# Altium integrated library Freescale DSP 24-Bit.IntLib: 35 symbols (part 2 of 3)
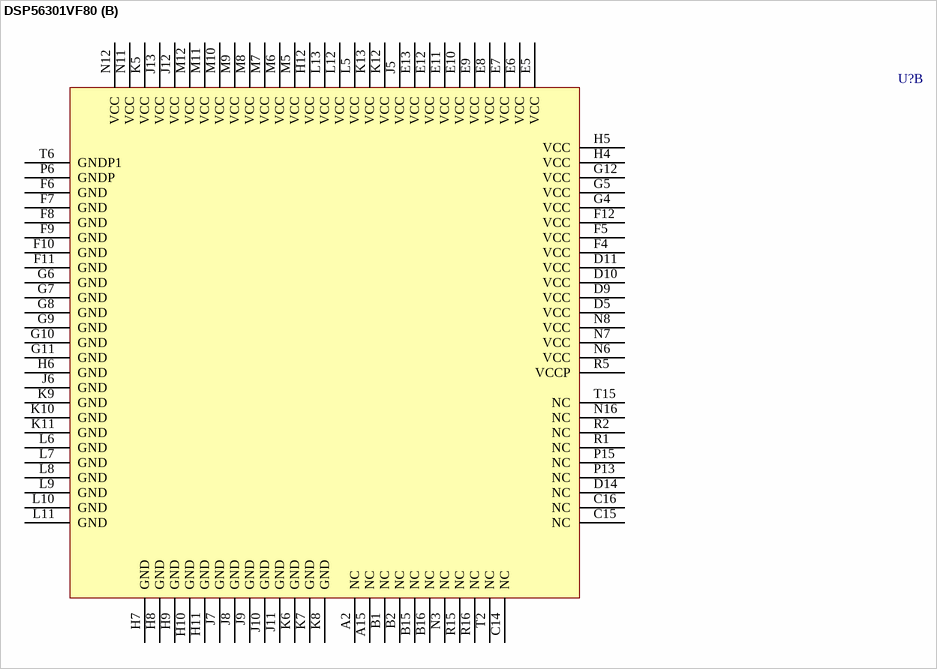
[diagram p26: symbol DSP56301VF80]

## DSP56301VF80
designator U?
DSP56300 Family High Performance 24-Bit Fixed Point DSP; Published: 21-Mar-2003; LatestRevisionDate: 13-Apr-2006; LatestRevisionNote: IPC-7351 Footprint Added.; DatasheetVersion: Rev. 5, Jan-2002; PackageVersion: Aug-2002; PackageReference: 996E-01; Publisher: Altium Limited; PackageDescription: 252-Ball MAP-Ball Grid Array 1.27 mm Pitch; ComponentLink1Description: Manufacturer Link; ComponentLink1URL: http://www.freescale.com/; ComponentLink2Description: Datasheet; ComponentLink2URL: http://www.freescale.com/files/dsp/doc/data_sheet/DSP56301DS.pdf
footprint 996E-01 (BGA, 252-Leads, Body 21x21mm, Pitch 1.27mm)
3D model DSP56301-996E-01 (252-Ball MAP-Ball Grid Array 1.27 mm Pitch)
part A pins: A3 HAD15, HD7, or PB15 (io), A4 HCLK (in), A5 HPAR or ~{HDAK} (io), A6 ~{HPERR} or HDRQ (io), A7 ~{HIRDY}, ~{HDBDR}, or PB21 (io), A8 HAD16 or HD8 (io), A9 HAD17 or HD9 (io), A10 HAD20 or HD12 (io), A11 HAD23 or HD15 (io), A12 HAD24 or HD16 (io), A13 HAD27 or HD19 (io), A14 HAD30 or HD22 (io), B3 HAD14, HD6, or PB14 (io), B4 ~{HGNT} or HAEN (in), B5 ~{HRST}/HRST (in), B6 ~{HSERR} or ~{HIRQ} (hiz), B7 ~{HDEVSEL}, ~{HSAK}, or PB22 (io), B8 HIDSEL or ~{HRD}/~{HDS} (in), B9 HC2/~{HBE2}, HA2, or PB18 (io), B10 HAD19 or HD11 (io), B11 HAD22 or HD14 (io), B12 HAD25 or HD17 (io), B13 HAD29 or HD21 (io), B14 HAD31 or HD23 (io), C1 HAD8, HD0, or PB8 (io), C2 HAD11, HD3, or PB11 (io), C3 HAD12, HD4, or PB12 (io), C4 HAD13, HD5, or PB13 (io), C5 HC1/~{HBE1}, HA1, or PB17 (io), C6 ~{HREQ} or ~{HTA} (hiz), C7 ~{HLOCK}, ~{HBS}, or PB23 (io), C8 ~{HFRAME} (io), C9 HAD18 or HD10 (io), C10 HAD21 or HD13 (io), C11 HC3/~{HBE3} or PB19 (io), C12 HAD26 or HD18 (io), C13 MODD/~{IRQD} (in), D1 HAD5, HA8, or PB5 (io), D2 HAD7, HA10, or PB7 (io), D3 HAD9, HD1, or PB9 (io), D4 HAD10, HD2, or PB10 (io), D6 PVCL, D7 ~{HSTOP} or ~{HWR}/HRW (io), D8 ~{HTRDY}, ~{HDBEN}, or PB20 (io), D12 HAD28 or HD20 (io), D13 MODC/~{IRQC} (in), D15 MODB/~{IRQB} (in), D16 D23 (io), E1 HAD2, HA5, or PB2 (io), E2 HAD4, HA7, or PB4 (io), E3 HAD6, HA9, or PB6 (io), E4 HC0/~{HBE0}, HA0, or PB16 (io), E14 MODA/~{IRQA} (in), E15 D22 (io), E16 D21 (io), F1 HAD1, HA4, or PB1 (io), F2 HAD0, HA3, or PB0 (io), F3 HAD3, HA6, or PB3 (io), F13 D18 (io), F14 D19 (io), F15 D20 (io), F16 D17 (io), G1 TIO1 (io), G2 RXD or PE0 (io), G3 TIO2 (io), G13 D12 (io), G14 D15 (io), G15 D16 (io), G16 D14 (io), H1 SCLK or PE2 (io), H2 ~{HINTA} (hiz), H3 TIO0 (io), H13 D11 (io), H14 D9 (io), H15 D13 (io), H16 D8 (io), J1 SC11 or PD1 (io), J2 SC12 or PD2 (io), J3 TXD or PE1 (io), J4 SC10 or PD0 (io), J14 D5 (io), J15 D10 (io), J16 D7 (io), K1 STD1 or PD5 (io), K2 SCK1 or PD3 (io), K3 SCK0 or PC3 (io), K4 SRD0 or PC4 (io), K14 D3 (io), K15 D6 (io), K16 D4 (io), L1 SRD1 or PD4 (io), L2 STD0 or PC5 (io), L3 SC02 or PC2 (io), L4 SC01 or PC1 (io), L14 D0 (io), L15 D2 (io), L16 D1 (io), M1 SC00 or PC0 (io), M2 ~{DE} (io), M3 TDO (hiz), M4 TMS (in), M13 A19 (hiz), M14 A21 (hiz), M15 A22 (hiz), M16 A23 (hiz), N1 TCK (in), N2 TDI (in), N4 ~{BL} (out), N5 ~{TA} (in), N9 A1 (hiz), N10 A2 (hiz), N13 A16 (hiz), N14 A17 (hiz), N15 A20 (hiz), P1 ~{TRST} (in), P2 ~{BS} (io), P3 AA0/~{RAS0} (hiz), P4 CLKOUT (out), P5 PINIT/~{NMI} (in), P7 ~{BG} (in), P8 AA3/~{RAS3} (hiz), P9 EXTAL (in), P10 A5 (hiz), P11 A8 (hiz), P12 A12 (hiz), P14 A15 (hiz), P16 A18 (hiz), R3 AA1/~{RAS1} (hiz), R4 ~{CAS} (hiz), R6 ~{BB} (io), R7 AA2/~{RAS2} (hiz), R8 XTAL, R9 ~{BCLK} (hiz), R10 A3 (hiz), R11 A6 (hiz), R12 A9 (hiz), R13 A11 (hiz), R14 A14 (hiz), T3 BCLK (hiz), T4 ~{RESET} (in), T5 PCAP, T7 ~{BR} (io), T8 ~{WR} (hiz), T9 ~{RD} (hiz), T10 A0 (hiz), T11 A4 (hiz), T12 A7 (hiz), T13 A10 (hiz), T14 A13 (hiz)
part B pins: A2 NC, A15 NC, B1 NC, B2 NC, B15 NC, B16 NC, C14 NC, C15 NC, C16 NC, D5 VCC (power), D9 VCC (power), D10 VCC (power), D11 VCC (power), D14 NC, E5 VCC (power), E6 VCC (power), E7 VCC (power), E8 VCC (power), E9 VCC (power), E10 VCC (power), E11 VCC (power), E12 VCC (power), E13 VCC (power), F4 VCC (power), F5 VCC (power), F6 GND (power), F7 GND (power), F8 GND (power), F9 GND (power), F10 GND (power), F11 GND (power), F12 VCC (power), G4 VCC (power), G5 VCC (power), G6 GND (power), G7 GND (power), G8 GND (power), G9 GND (power), G10 GND (power), G11 GND (power), G12 VCC (power), H4 VCC (power), H5 VCC (power), H6 GND (power), H7 GND (power), H8 GND (power), H9 GND (power), H10 GND (power), H11 GND (power), H12 VCC (power), J5 VCC (power), J6 GND (power), J7 GND (power), J8 GND (power), J9 GND (power), J10 GND (power), J11 GND (power), J12 VCC (power), J13 VCC (power), K5 VCC (power), K6 GND (power), K7 GND (power), K8 GND (power), K9 GND (power), K10 GND (power), K11 GND (power), K12 VCC (power), K13 VCC (power), L5 VCC (power), L6 GND (power), L7 GND (power), L8 GND (power), L9 GND (power), L10 GND (power), L11 GND (power), L12 VCC (power), L13 VCC (power), M5 VCC (power), M6 VCC (power), M7 VCC (power), M8 VCC (power), M9 VCC (power), M10 VCC (power), M11 VCC (power), M12 VCC (power), N3 NC, N6 VCC (power), N7 VCC (power), N8 VCC (power), N11 VCC (power), N12 VCC (power), N16 NC, P6 GNDP (power), P13 NC, P15 NC, R1 NC, R2 NC, R5 VCCP (power), R15 NC, R16 NC, T2 NC, T6 GNDP1 (power), T15 NC

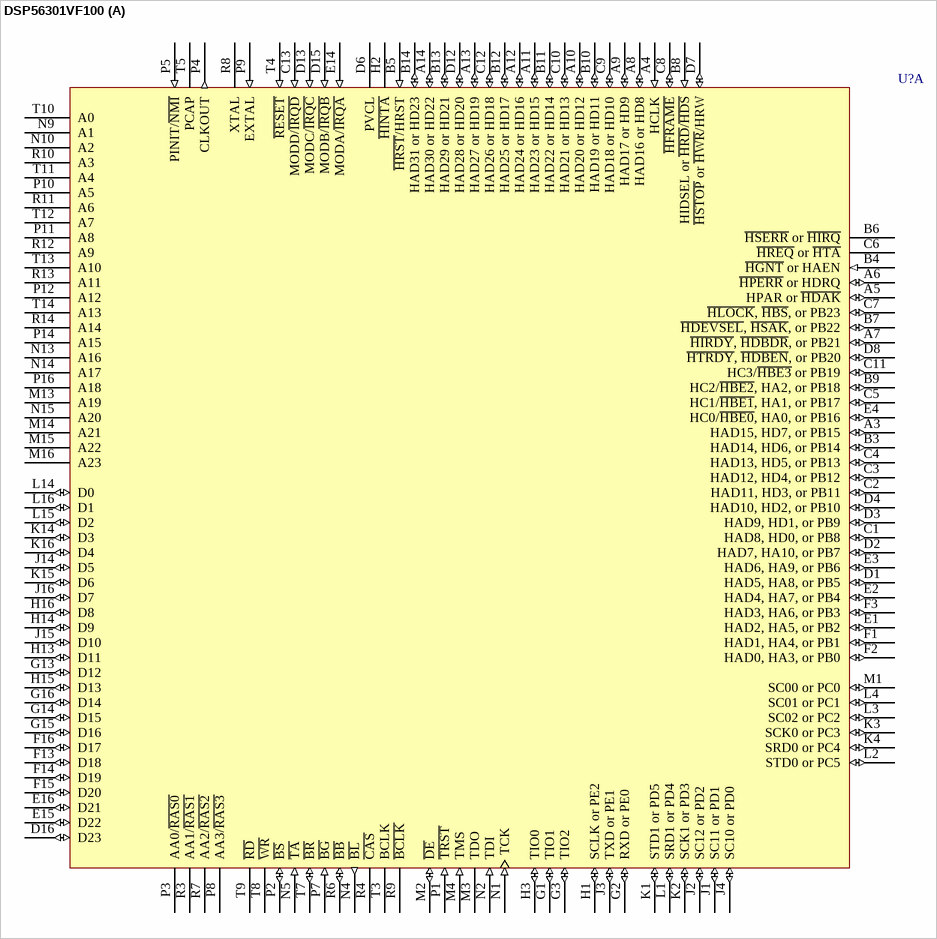
[diagram p10: symbol DSP56301VF100]

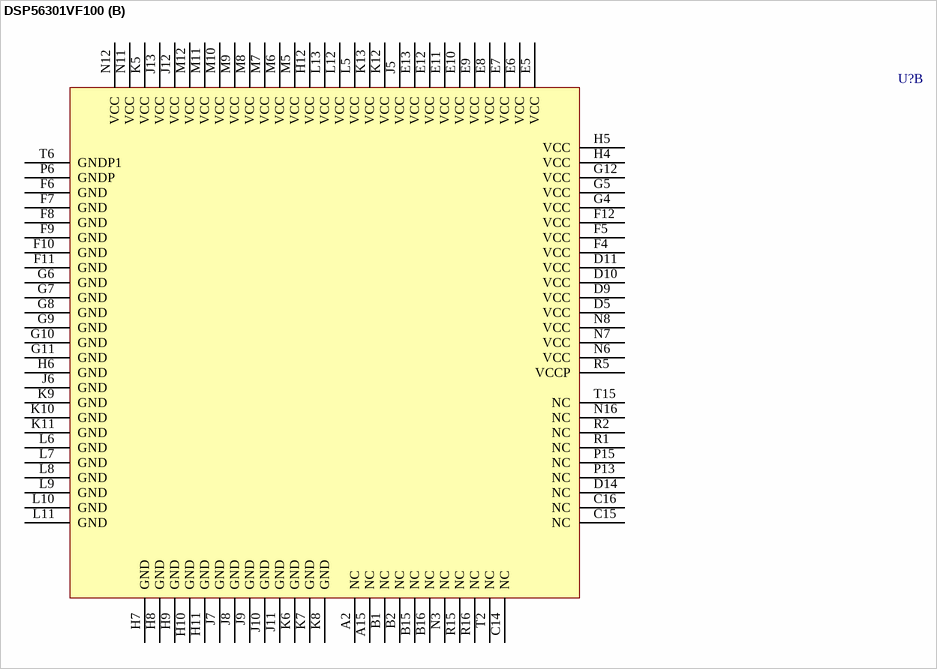
[diagram p11: symbol DSP56301VF100]

## DSP56301VF100
designator U?
DSP56300 Family High Performance 24-Bit Fixed Point DSP; Published: 21-Mar-2003; LatestRevisionDate: 13-Apr-2006; LatestRevisionNote: IPC-7351 Footprint Added.; DatasheetVersion: Rev. 5, Jan-2002; PackageVersion: Aug-2002; PackageReference: 996E-01; Publisher: Altium Limited; PackageDescription: 252-Ball MAP-Ball Grid Array 1.27 mm Pitch; ComponentLink1Description: Manufacturer Link; ComponentLink1URL: http://www.freescale.com/; ComponentLink2Description: Datasheet; ComponentLink2URL: http://www.freescale.com/files/dsp/doc/data_sheet/DSP56301DS.pdf
footprint 996E-01 (BGA, 252-Leads, Body 21x21mm, Pitch 1.27mm)
3D model DSP56301-996E-01 (252-Ball MAP-Ball Grid Array 1.27 mm Pitch)
part A pins: A3 HAD15, HD7, or PB15 (io), A4 HCLK (in), A5 HPAR or ~{HDAK} (io), A6 ~{HPERR} or HDRQ (io), A7 ~{HIRDY}, ~{HDBDR}, or PB21 (io), A8 HAD16 or HD8 (io), A9 HAD17 or HD9 (io), A10 HAD20 or HD12 (io), A11 HAD23 or HD15 (io), A12 HAD24 or HD16 (io), A13 HAD27 or HD19 (io), A14 HAD30 or HD22 (io), B3 HAD14, HD6, or PB14 (io), B4 ~{HGNT} or HAEN (in), B5 ~{HRST}/HRST (in), B6 ~{HSERR} or ~{HIRQ} (hiz), B7 ~{HDEVSEL}, ~{HSAK}, or PB22 (io), B8 HIDSEL or ~{HRD}/~{HDS} (in), B9 HC2/~{HBE2}, HA2, or PB18 (io), B10 HAD19 or HD11 (io), B11 HAD22 or HD14 (io), B12 HAD25 or HD17 (io), B13 HAD29 or HD21 (io), B14 HAD31 or HD23 (io), C1 HAD8, HD0, or PB8 (io), C2 HAD11, HD3, or PB11 (io), C3 HAD12, HD4, or PB12 (io), C4 HAD13, HD5, or PB13 (io), C5 HC1/~{HBE1}, HA1, or PB17 (io), C6 ~{HREQ} or ~{HTA} (hiz), C7 ~{HLOCK}, ~{HBS}, or PB23 (io), C8 ~{HFRAME} (io), C9 HAD18 or HD10 (io), C10 HAD21 or HD13 (io), C11 HC3/~{HBE3} or PB19 (io), C12 HAD26 or HD18 (io), C13 MODD/~{IRQD} (in), D1 HAD5, HA8, or PB5 (io), D2 HAD7, HA10, or PB7 (io), D3 HAD9, HD1, or PB9 (io), D4 HAD10, HD2, or PB10 (io), D6 PVCL, D7 ~{HSTOP} or ~{HWR}/HRW (io), D8 ~{HTRDY}, ~{HDBEN}, or PB20 (io), D12 HAD28 or HD20 (io), D13 MODC/~{IRQC} (in), D15 MODB/~{IRQB} (in), D16 D23 (io), E1 HAD2, HA5, or PB2 (io), E2 HAD4, HA7, or PB4 (io), E3 HAD6, HA9, or PB6 (io), E4 HC0/~{HBE0}, HA0, or PB16 (io), E14 MODA/~{IRQA} (in), E15 D22 (io), E16 D21 (io), F1 HAD1, HA4, or PB1 (io), F2 HAD0, HA3, or PB0 (io), F3 HAD3, HA6, or PB3 (io), F13 D18 (io), F14 D19 (io), F15 D20 (io), F16 D17 (io), G1 TIO1 (io), G2 RXD or PE0 (io), G3 TIO2 (io), G13 D12 (io), G14 D15 (io), G15 D16 (io), G16 D14 (io), H1 SCLK or PE2 (io), H2 ~{HINTA} (hiz), H3 TIO0 (io), H13 D11 (io), H14 D9 (io), H15 D13 (io), H16 D8 (io), J1 SC11 or PD1 (io), J2 SC12 or PD2 (io), J3 TXD or PE1 (io), J4 SC10 or PD0 (io), J14 D5 (io), J15 D10 (io), J16 D7 (io), K1 STD1 or PD5 (io), K2 SCK1 or PD3 (io), K3 SCK0 or PC3 (io), K4 SRD0 or PC4 (io), K14 D3 (io), K15 D6 (io), K16 D4 (io), L1 SRD1 or PD4 (io), L2 STD0 or PC5 (io), L3 SC02 or PC2 (io), L4 SC01 or PC1 (io), L14 D0 (io), L15 D2 (io), L16 D1 (io), M1 SC00 or PC0 (io), M2 ~{DE} (io), M3 TDO (hiz), M4 TMS (in), M13 A19 (hiz), M14 A21 (hiz), M15 A22 (hiz), M16 A23 (hiz), N1 TCK (in), N2 TDI (in), N4 ~{BL} (out), N5 ~{TA} (in), N9 A1 (hiz), N10 A2 (hiz), N13 A16 (hiz), N14 A17 (hiz), N15 A20 (hiz), P1 ~{TRST} (in), P2 ~{BS} (io), P3 AA0/~{RAS0} (hiz), P4 CLKOUT (out), P5 PINIT/~{NMI} (in), P7 ~{BG} (in), P8 AA3/~{RAS3} (hiz), P9 EXTAL (in), P10 A5 (hiz), P11 A8 (hiz), P12 A12 (hiz), P14 A15 (hiz), P16 A18 (hiz), R3 AA1/~{RAS1} (hiz), R4 ~{CAS} (hiz), R6 ~{BB} (io), R7 AA2/~{RAS2} (hiz), R8 XTAL, R9 ~{BCLK} (hiz), R10 A3 (hiz), R11 A6 (hiz), R12 A9 (hiz), R13 A11 (hiz), R14 A14 (hiz), T3 BCLK (hiz), T4 ~{RESET} (in), T5 PCAP, T7 ~{BR} (io), T8 ~{WR} (hiz), T9 ~{RD} (hiz), T10 A0 (hiz), T11 A4 (hiz), T12 A7 (hiz), T13 A10 (hiz), T14 A13 (hiz)
part B pins: A2 NC, A15 NC, B1 NC, B2 NC, B15 NC, B16 NC, C14 NC, C15 NC, C16 NC, D5 VCC (power), D9 VCC (power), D10 VCC (power), D11 VCC (power), D14 NC, E5 VCC (power), E6 VCC (power), E7 VCC (power), E8 VCC (power), E9 VCC (power), E10 VCC (power), E11 VCC (power), E12 VCC (power), E13 VCC (power), F4 VCC (power), F5 VCC (power), F6 GND (power), F7 GND (power), F8 GND (power), F9 GND (power), F10 GND (power), F11 GND (power), F12 VCC (power), G4 VCC (power), G5 VCC (power), G6 GND (power), G7 GND (power), G8 GND (power), G9 GND (power), G10 GND (power), G11 GND (power), G12 VCC (power), H4 VCC (power), H5 VCC (power), H6 GND (power), H7 GND (power), H8 GND (power), H9 GND (power), H10 GND (power), H11 GND (power), H12 VCC (power), J5 VCC (power), J6 GND (power), J7 GND (power), J8 GND (power), J9 GND (power), J10 GND (power), J11 GND (power), J12 VCC (power), J13 VCC (power), K5 VCC (power), K6 GND (power), K7 GND (power), K8 GND (power), K9 GND (power), K10 GND (power), K11 GND (power), K12 VCC (power), K13 VCC (power), L5 VCC (power), L6 GND (power), L7 GND (power), L8 GND (power), L9 GND (power), L10 GND (power), L11 GND (power), L12 VCC (power), L13 VCC (power), M5 VCC (power), M6 VCC (power), M7 VCC (power), M8 VCC (power), M9 VCC (power), M10 VCC (power), M11 VCC (power), M12 VCC (power), N3 NC, N6 VCC (power), N7 VCC (power), N8 VCC (power), N11 VCC (power), N12 VCC (power), N16 NC, P6 GNDP (power), P13 NC, P15 NC, R1 NC, R2 NC, R5 VCCP (power), R15 NC, R16 NC, T2 NC, T6 GNDP1 (power), T15 NC

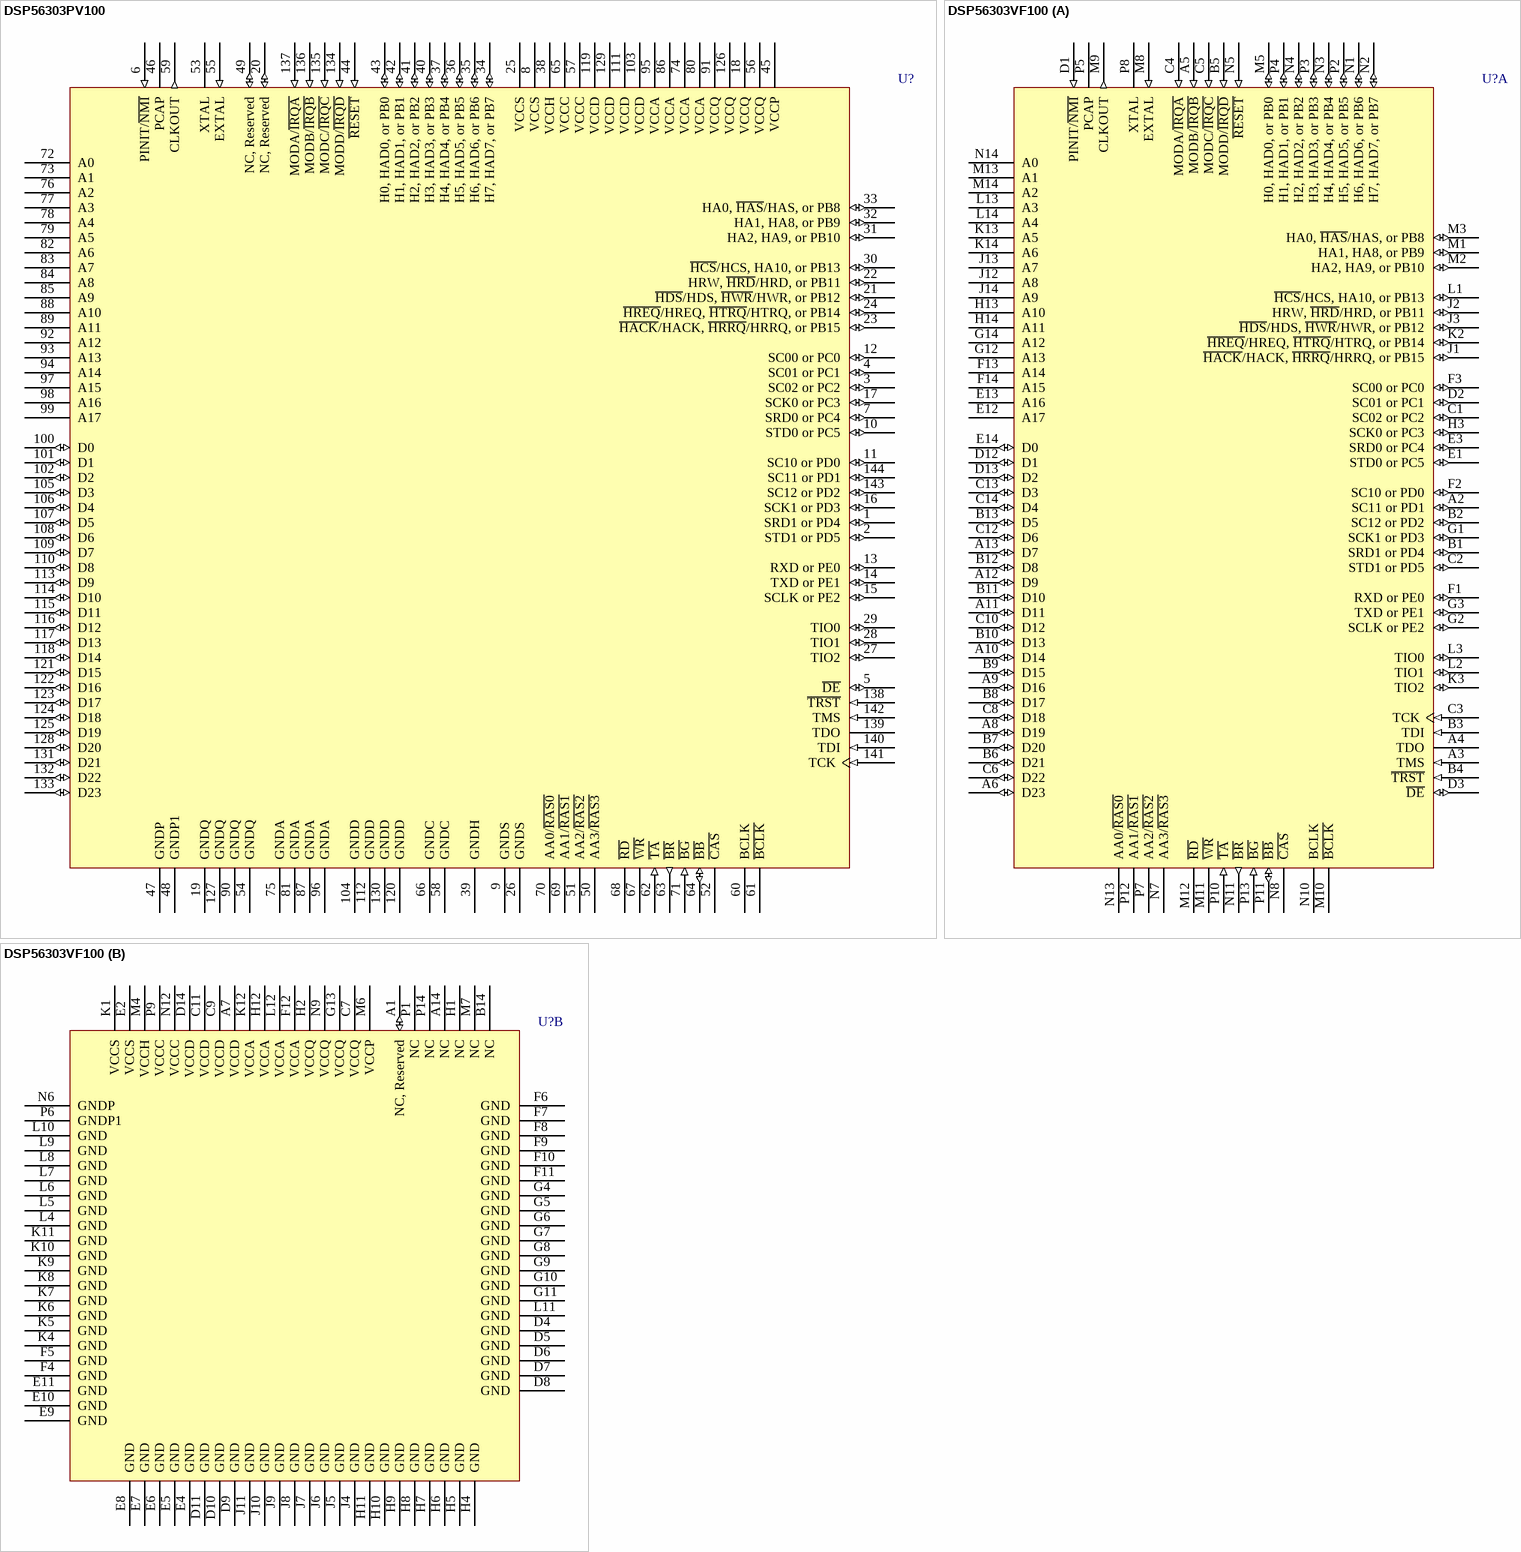
[diagram p12: symbols DSP56303PV100 to DSP56303VF100]

## DSP56303PV100
designator U?
DSP56300 Family High Performance 24-Bit Fixed Point DSP; Published: 21-Mar-2003; LatestRevisionDate: 13-Apr-2006; LatestRevisionNote: IPC-7351 Footprint Added.; DatasheetVersion: Rev. 7.0, Jan-2002; PackageVersion: revF, May-2005; PackageReference: 918-03; Publisher: Altium Limited; PackageDescription: 144-Pin Low Profile Quad Flat Pack 0.5 mm Pitch (918-03); ComponentLink1Description: Manufacturer Link; ComponentLink1URL: http://www.freescale.com/; ComponentLink2Description: Datasheet; ComponentLink2URL: http://www.freescale.com/files/dsp/doc/data_sheet/DSP56303.pdf
footprint 918-03_N (Thin QFP, 144-Leads, Body 20x20mm, Pitch 0.5mm, IPC Medium Density)
footprint 918-03_L (Thin QFP, 144-Leads, Body 20x20mm, Pitch 0.5mm, IPC High Density)
footprint 918-03_M (Thin QFP, 144-Leads, Body 20x20mm, Pitch 0.5mm, IPC Low Density)
3D model DSP56303-918-03 (144-Pin Low Profile Quad Flat Pack 0.5 mm Pitch (918-03))
pins: 1 SRD1 or PD4 (io), 2 STD1 or PD5 (io), 3 SC02 or PC2 (io), 4 SC01 or PC1 (io), 5 ~{DE} (io), 6 PINIT/~{NMI} (in), 7 SRD0 or PC4 (io), 8 VCCS (power), 9 GNDS (power), 10 STD0 or PC5 (io), 11 SC10 or PD0 (io), 12 SC00 or PC0 (io), 13 RXD or PE0 (io), 14 TXD or PE1 (io), 15 SCLK or PE2 (io), 16 SCK1 or PD3 (io), 17 SCK0 or PC3 (io), 18 VCCQ (power), 19 GNDQ (power), 20 NC, Reserved (io), 21 ~{HDS}/HDS, ~{HWR}/HWR, or PB12 (io), 22 HRW, ~{HRD}/HRD, or PB11 (io), 23 ~{HACK}/HACK, ~{HRRQ}/HRRQ, or PB15 (io), 24 ~{HREQ}/HREQ, ~{HTRQ}/HTRQ, or PB14 (io), 25 VCCS (power), 26 GNDS (power), 27 TIO2 (io), 28 TIO1 (io), 29 TIO0 (io), 30 ~{HCS}/HCS, HA10, or PB13 (io), 31 HA2, HA9, or PB10 (io), 32 HA1, HA8, or PB9 (io), 33 HA0, ~{HAS}/HAS, or PB8 (io), 34 H7, HAD7, or PB7 (io), 35 H6, HAD6, or PB6 (io), 36 H5, HAD5, or PB5 (io), 37 H4, HAD4, or PB4 (io), 38 VCCH (power), 39 GNDH (power), 40 H3, HAD3, or PB3 (io), 41 H2, HAD2, or PB2 (io), 42 H1, HAD1, or PB1 (io), 43 H0, HAD0, or PB0 (io), 44 ~{RESET} (in), 45 VCCP (power), 46 PCAP, 47 GNDP (power), 48 GNDP1 (power), 49 NC, Reserved (io), 50 AA3/~{RAS3} (hiz), 51 AA2/~{RAS2} (hiz), 52 ~{CAS} (hiz), 53 XTAL, 54 GNDQ (power), 55 EXTAL (in), 56 VCCQ (power), 57 VCCC (power), 58 GNDC (power), 59 CLKOUT (out), 60 BCLK (hiz), 61 ~{BCLK} (hiz), 62 ~{TA} (in), 63 ~{BR} (out), 64 ~{BB} (io), 65 VCCC (power), 66 GNDC (power), 67 ~{WR} (hiz), 68 ~{RD} (hiz), 69 AA1/~{RAS1} (hiz), 70 AA0/~{RAS0} (hiz), 71 ~{BG} (in), 72 A0 (hiz), 73 A1 (hiz), 74 VCCA (power), 75 GNDA (power), 76 A2 (hiz), 77 A3 (hiz), 78 A4 (hiz), 79 A5 (hiz), 80 VCCA (power), 81 GNDA (power), 82 A6 (hiz), 83 A7 (hiz), 84 A8 (hiz), 85 A9 (hiz), 86 VCCA (power), 87 GNDA (power), 88 A10 (hiz), 89 A11 (hiz), 90 GNDQ (power), 91 VCCQ (power), 92 A12 (hiz), 93 A13 (hiz), 94 A14 (hiz), 95 VCCA (power), 96 GNDA (power), 97 A15 (hiz), 98 A16 (hiz), 99 A17 (hiz), 100 D0 (io), 101 D1 (io), 102 D2 (io), 103 VCCD (power), 104 GNDD (power), 105 D3 (io), 106 D4 (io), 107 D5 (io), 108 D6 (io), 109 D7 (io), 110 D8 (io), 111 VCCD (power), 112 GNDD (power), 113 D9 (io), 114 D10 (io), 115 D11 (io), 116 D12 (io), 117 D13 (io), 118 D14 (io), 119 VCCD (power), 120 GNDD (power), 121 D15 (io), 122 D16 (io), 123 D17 (io), 124 D18 (io), 125 D19 (io), 126 VCCQ (power), 127 GNDQ (power), 128 D20 (io), 129 VCCD (power), 130 GNDD (power), 131 D21 (io), 132 D22 (io), 133 D23 (io), 134 MODD/~{IRQD} (in), 135 MODC/~{IRQC} (in), 136 MODB/~{IRQB} (in), 137 MODA/~{IRQA} (in), 138 ~{TRST} (in), 139 TDO (hiz), 140 TDI (in), 141 TCK (in), 142 TMS (in), 143 SC12 or PD2 (io), 144 SC11 or PD1 (io)

## DSP56303VF100
designator U?
DSP56300 Family High Performance 24-Bit Fixed Point DSP; Published: 21-Mar-2003; LatestRevisionDate: 13-Apr-2006; LatestRevisionNote: IPC-7351 Footprint Added.; DatasheetVersion: Rev. 7.0, Jan-2002; PackageVersion: rev7, Jan-2002; PackageReference: 1128C-01; Publisher: Altium Limited; PackageDescription: 196-Ball MAP-Ball Grid Array 1 mm Pitch; ComponentLink1Description: Manufacturer Link; ComponentLink1URL: http://www.freescale.com/; ComponentLink2Description: Datasheet; ComponentLink2URL: http://www.freescale.com/files/dsp/doc/data_sheet/DSP56303.pdf
footprint 1128C-01 (BGA, 196-Leads, Body 15x15mm, Pitch 1mm)
3D model DSP56303-1128C-01 (196-Ball MAP-Ball Grid Array 1 mm Pitch)
part A pins: A2 SC11 or PD1 (io), A3 TMS (in), A4 TDO (hiz), A5 MODB/~{IRQB} (in), A6 D23 (io), A8 D19 (io), A9 D16 (io), A10 D14 (io), A11 D11 (io), A12 D9 (io), A13 D7 (io), B1 SRD1 or PD4 (io), B2 SC12 or PD2 (io), B3 TDI (in), B4 ~{TRST} (in), B5 MODD/~{IRQD} (in), B6 D21 (io), B7 D20 (io), B8 D17 (io), B9 D15 (io), B10 D13 (io), B11 D10 (io), B12 D8 (io), B13 D5 (io), C1 SC02 or PC2 (io), C2 STD1 or PD5 (io), C3 TCK (in), C4 MODA/~{IRQA} (in), C5 MODC/~{IRQC} (in), C6 D22 (io), C8 D18 (io), C10 D12 (io), C12 D6 (io), C13 D3 (io), C14 D4 (io), D1 PINIT/~{NMI} (in), D2 SC01 or PC1 (io), D3 ~{DE} (io), D12 D1 (io), D13 D2 (io), E1 STD0 or PC5 (io), E3 SRD0 or PC4 (io), E12 A17 (hiz), E13 A16 (hiz), E14 D0 (io), F1 RXD or PE0 (io), F2 SC10 or PD0 (io), F3 SC00 or PC0 (io), F13 A14 (hiz), F14 A15 (hiz), G1 SCK1 or PD3 (io), G2 SCLK or PE2 (io), G3 TXD or PE1 (io), G12 A13 (hiz), G14 A12 (hiz), H3 SCK0 or PC3 (io), H13 A10 (hiz), H14 A11 (hiz), J1 ~{HACK}/HACK, ~{HRRQ}/HRRQ, or PB15 (io), J2 HRW, ~{HRD}/HRD, or PB11 (io), J3 ~{HDS}/HDS, ~{HWR}/HWR, or PB12 (io), J12 A8 (hiz), J13 A7 (hiz), J14 A9 (hiz), K2 ~{HREQ}/HREQ, ~{HTRQ}/HTRQ, or PB14 (io), K3 TIO2 (io), K13 A5 (hiz), K14 A6 (hiz), L1 ~{HCS}/HCS, HA10, or PB13 (io), L2 TIO1 (io), L3 TIO0 (io), L13 A3 (hiz), L14 A4 (hiz), M1 HA1, HA8, or PB9 (io), M2 HA2, HA9, or PB10 (io), M3 HA0, ~{HAS}/HAS, or PB8 (io), M5 H0, HAD0, or PB0 (io), M8 EXTAL (in), M9 CLKOUT (out), M10 ~{BCLK} (hiz), M11 ~{WR} (hiz), M12 ~{RD} (hiz), M13 A1 (hiz), M14 A2 (hiz), N1 H6, HAD6, or PB6 (io), N2 H7, HAD7, or PB7 (io), N3 H4, HAD4, or PB4 (io), N4 H2, HAD2, or PB2 (io), N5 ~{RESET} (in), N7 AA3/~{RAS3} (hiz), N8 ~{CAS} (hiz), N10 BCLK (hiz), N11 ~{BR} (out), N13 AA0/~{RAS0} (hiz), N14 A0 (hiz), P2 H5, HAD5, or PB5 (io), P3 H3, HAD3, or PB3 (io), P4 H1, HAD1, or PB1 (io), P5 PCAP, P7 AA2/~{RAS2} (hiz), P8 XTAL, P10 ~{TA} (in), P11 ~{BB} (io), P12 AA1/~{RAS1} (hiz), P13 ~{BG} (in)
part B pins: A1 NC, Reserved (io), A7 VCCD (power), A14 NC, B14 NC, C7 VCCQ (power), C9 VCCD (power), C11 VCCD (power), D4 GND (power), D5 GND (power), D6 GND (power), D7 GND (power), D8 GND (power), D9 GND (power), D10 GND (power), D11 GND (power), D14 VCCD (power), E2 VCCS (power), E4 GND (power), E5 GND (power), E6 GND (power), E7 GND (power), E8 GND (power), E9 GND (power), E10 GND (power), E11 GND (power), F4 GND (power), F5 GND (power), F6 GND (power), F7 GND (power), F8 GND (power), F9 GND (power), F10 GND (power), F11 GND (power), F12 VCCA (power), G4 GND (power), G5 GND (power), G6 GND (power), G7 GND (power), G8 GND (power), G9 GND (power), G10 GND (power), G11 GND (power), G13 VCCQ (power), H1 NC, H2 VCCQ (power), H4 GND (power), H5 GND (power), H6 GND (power), H7 GND (power), H8 GND (power), H9 GND (power), H10 GND (power), H11 GND (power), H12 VCCA (power), J4 GND (power), J5 GND (power), J6 GND (power), J7 GND (power), J8 GND (power), J9 GND (power), J10 GND (power), J11 GND (power), K1 VCCS (power), K4 GND (power), K5 GND (power), K6 GND (power), K7 GND (power), K8 GND (power), K9 GND (power), K10 GND (power), K11 GND (power), K12 VCCA (power), L4 GND (power), L5 GND (power), L6 GND (power), L7 GND (power), L8 GND (power), L9 GND (power), L10 GND (power), L11 GND (power), L12 VCCA (power), M4 VCCH (power), M6 VCCP (power), M7 NC, N6 GNDP (power), N9 VCCQ (power), N12 VCCC (power), P1 NC, P6 GNDP1 (power), P9 VCCC (power), P14 NC

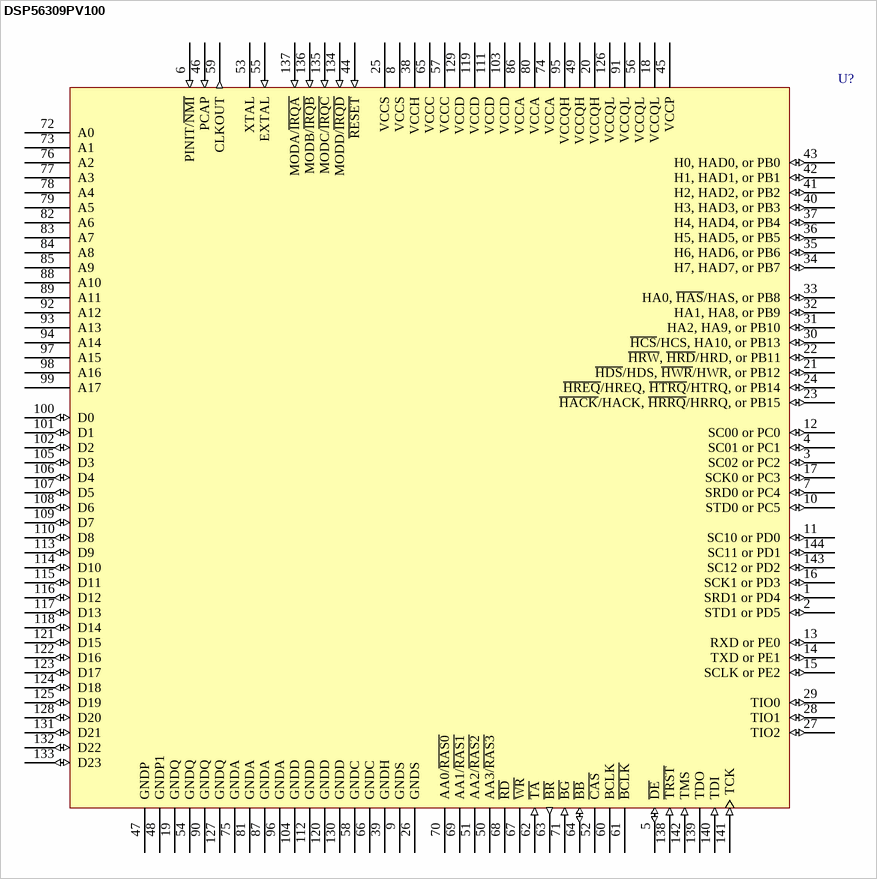
[diagram p13: symbol DSP56309PV100]

## DSP56309PV100
designator U?
DSP56300 Family High Performance 24-Bit Fixed Point DSP; Published: 21-Mar-2003; LatestRevisionDate: 13-Apr-2006; LatestRevisionNote: IPC-7351 Footprint Added.; DatasheetVersion: Rev. 3.0, Sep-2002; PackageVersion: revF, May-2005; PackageReference: 918-03; Publisher: Altium Limited; PackageDescription: 144-Pin Low Profile Quad Flat Pack 0.5 mm Pitch (918-03); ComponentLink1Description: Manufacturer Link; ComponentLink1URL: http://www.freescale.com/; ComponentLink2Description: Datasheet; ComponentLink2URL: http://www.freescale.com/files/dsp/doc/data_sheet/DSP56309.pdf
footprint 918-03_N (Thin QFP, 144-Leads, Body 20x20mm, Pitch 0.5mm, IPC Medium Density)
footprint 918-03_L (Thin QFP, 144-Leads, Body 20x20mm, Pitch 0.5mm, IPC High Density)
footprint 918-03_M (Thin QFP, 144-Leads, Body 20x20mm, Pitch 0.5mm, IPC Low Density)
3D model DSP56309-918-03 (144-Pin Low Profile Quad Flat Pack 0.5 mm Pitch (918-03))
pins: 1 SRD1 or PD4 (io), 2 STD1 or PD5 (io), 3 SC02 or PC2 (io), 4 SC01 or PC1 (io), 5 ~{DE} (io), 6 PINIT/~{NMI} (in), 7 SRD0 or PC4 (io), 8 VCCS (power), 9 GNDS (power), 10 STD0 or PC5 (io), 11 SC10 or PD0 (io), 12 SC00 or PC0 (io), 13 RXD or PE0 (io), 14 TXD or PE1 (io), 15 SCLK or PE2 (io), 16 SCK1 or PD3 (io), 17 SCK0 or PC3 (io), 18 VCCQL (power), 19 GNDQ (power), 20 VCCQH (power), 21 ~{HDS}/HDS, ~{HWR}/HWR, or PB12 (io), 22 ~{HRW}, ~{HRD}/HRD, or PB11 (io), 23 ~{HACK}/HACK, ~{HRRQ}/HRRQ, or PB15 (io), 24 ~{HREQ}/HREQ, ~{HTRQ}/HTRQ, or PB14 (io), 25 VCCS (power), 26 GNDS (power), 27 TIO2 (io), 28 TIO1 (io), 29 TIO0 (io), 30 ~{HCS}/HCS, HA10, or PB13 (io), 31 HA2, HA9, or PB10 (io), 32 HA1, HA8, or PB9 (io), 33 HA0, ~{HAS}/HAS, or PB8 (io), 34 H7, HAD7, or PB7 (io), 35 H6, HAD6, or PB6 (io), 36 H5, HAD5, or PB5 (io), 37 H4, HAD4, or PB4 (io), 38 VCCH (power), 39 GNDH (power), 40 H3, HAD3, or PB3 (io), 41 H2, HAD2, or PB2 (io), 42 H1, HAD1, or PB1 (io), 43 H0, HAD0, or PB0 (io), 44 ~{RESET} (in), 45 VCCP (power), 46 PCAP (in), 47 GNDP (power), 48 GNDP1 (power), 49 VCCQH (power), 50 AA3/~{RAS3} (hiz), 51 AA2/~{RAS2} (hiz), 52 ~{CAS} (hiz), 53 XTAL, 54 GNDQ (power), 55 EXTAL (in), 56 VCCQL (power), 57 VCCC (power), 58 GNDC (power), 59 CLKOUT (out), 60 BCLK (hiz), 61 ~{BCLK} (hiz), 62 ~{TA} (in), 63 ~{BR} (out), 64 ~{BB} (io), 65 VCCC (power), 66 GNDC (power), 67 ~{WR} (hiz), 68 ~{RD} (hiz), 69 AA1/~{RAS1} (hiz), 70 AA0/~{RAS0} (hiz), 71 ~{BG} (in), 72 A0 (hiz), 73 A1 (hiz), 74 VCCA (power), 75 GNDA (power), 76 A2 (hiz), 77 A3 (hiz), 78 A4 (hiz), 79 A5 (hiz), 80 VCCA (power), 81 GNDA (power), 82 A6 (hiz), 83 A7 (hiz), 84 A8 (hiz), 85 A9 (hiz), 86 VCCA (power), 87 GNDA (power), 88 A10 (hiz), 89 A11 (hiz), 90 GNDQ (power), 91 VCCQL (power), 92 A12 (hiz), 93 A13 (hiz), 94 A14 (hiz), 95 VCCQH (power), 96 GNDA (power), 97 A15 (hiz), 98 A16 (hiz), 99 A17 (hiz), 100 D0 (io), 101 D1 (io), 102 D2 (io), 103 VCCD (power), 104 GNDD (power), 105 D3 (io), 106 D4 (io), 107 D5 (io), 108 D6 (io), 109 D7 (io), 110 D8 (io), 111 VCCD (power), 112 GNDD (power), 113 D9 (io), 114 D10 (io), 115 D11 (io), 116 D12 (io), 117 D13 (io), 118 D14 (io), 119 VCCD (power), 120 GNDD (power), 121 D15 (io), 122 D16 (io), 123 D17 (io), 124 D18 (io), 125 D19 (io), 126 VCCQL (power), 127 GNDQ (power), 128 D20 (io), 129 VCCD (power), 130 GNDD (power), 131 D21 (io), 132 D22 (io), 133 D23 (io), 134 MODD/~{IRQD} (in), 135 MODC/~{IRQC} (in), 136 MODB/~{IRQB} (in), 137 MODA/~{IRQA} (in), 138 ~{TRST} (in), 139 TDO (hiz), 140 TDI (in), 141 TCK (in), 142 TMS (in), 143 SC12 or PD2 (io), 144 SC11 or PD1 (io)

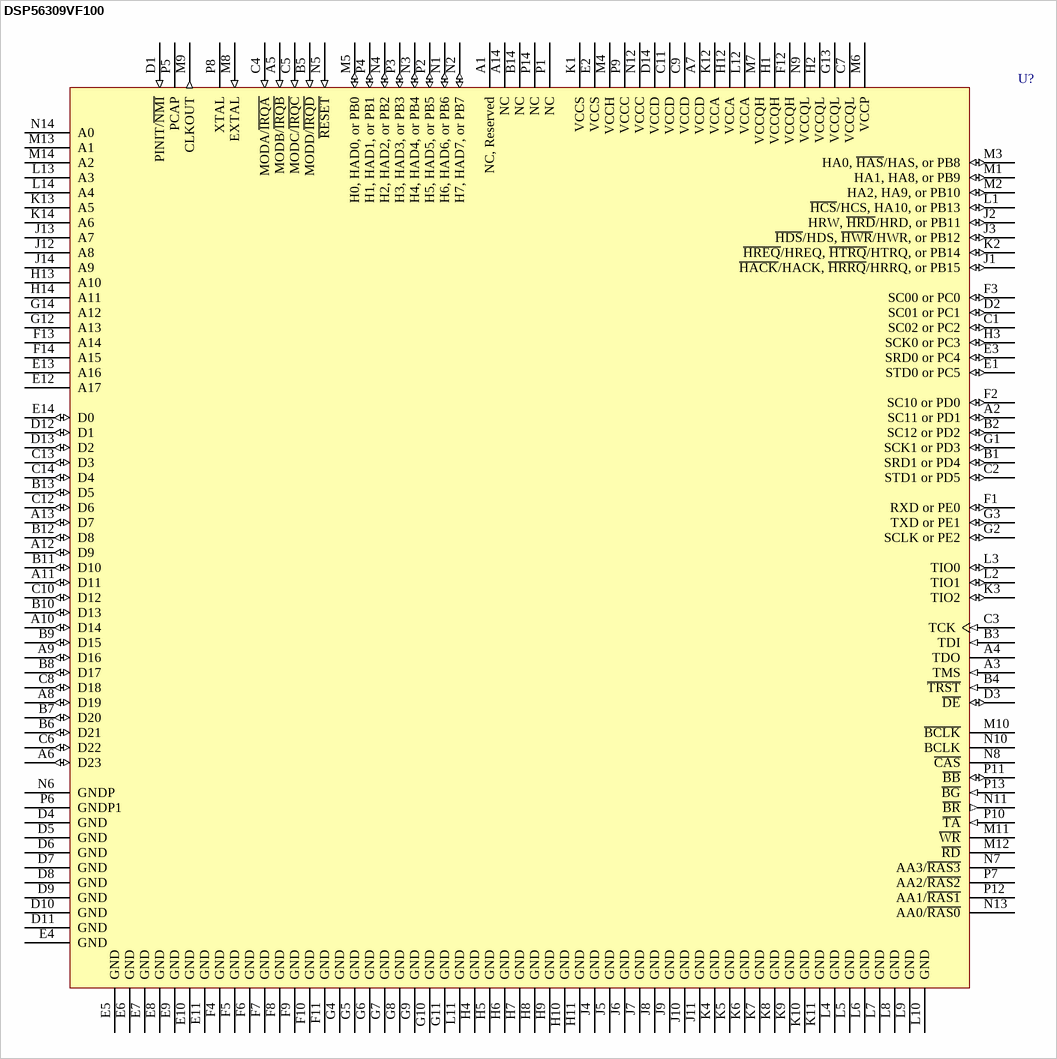
[diagram p14: symbol DSP56309VF100]

## DSP56309VF100
designator U?
DSP56300 Family High Performance 24-Bit Fixed Point DSP; Published: 21-Mar-2003; LatestRevisionDate: 13-Apr-2006; LatestRevisionNote: IPC-7351 Footprint Added.; DatasheetVersion: Rev. 3.0, Sep-2002; PackageVersion: rev7, Jan-2002; PackageReference: 1128C-01; Publisher: Altium Limited; PackageDescription: 196-Ball MAP-Ball Grid Array 1 mm Pitch; ComponentLink1Description: Manufacturer Link; ComponentLink1URL: http://www.freescale.com/; ComponentLink2Description: Datasheet; ComponentLink2URL: http://www.freescale.com/files/dsp/doc/data_sheet/DSP56309.pdf
footprint 1128C-01 (BGA, 196-Leads, Body 15x15mm, Pitch 1mm)
3D model DSP56309-1128C-01 (196-Ball MAP-Ball Grid Array 1 mm Pitch)
pins: A1 NC, Reserved, A2 SC11 or PD1 (io), A3 TMS (in), A4 TDO (hiz), A5 MODB/~{IRQB} (in), A6 D23 (io), A7 VCCD (power), A8 D19 (io), A9 D16 (io), A10 D14 (io), A11 D11 (io), A12 D9 (io), A13 D7 (io), A14 NC, B1 SRD1 or PD4 (io), B2 SC12 or PD2 (io), B3 TDI (in), B4 ~{TRST} (in), B5 MODD/~{IRQD} (in), B6 D21 (io), B7 D20 (io), B8 D17 (io), B9 D15 (io), B10 D13 (io), B11 D10 (io), B12 D8 (io), B13 D5 (io), B14 NC, C1 SC02 or PC2 (io), C2 STD1 or PD5 (io), C3 TCK (in), C4 MODA/~{IRQA} (in), C5 MODC/~{IRQC} (in), C6 D22 (io), C7 VCCQL (power), C8 D18 (io), C9 VCCD (power), C10 D12 (io), C11 VCCD (power), C12 D6 (io), C13 D3 (io), C14 D4 (io), D1 PINIT/~{NMI} (in), D2 SC01 or PC1 (io), D3 ~{DE} (io), D4 GND (power), D5 GND (power), D6 GND (power), D7 GND (power), D8 GND (power), D9 GND (power), D10 GND (power), D11 GND (power), D12 D1 (io), D13 D2 (io), D14 VCCD (power), E1 STD0 or PC5 (io), E2 VCCS (power), E3 SRD0 or PC4 (io), E4 GND (power), E5 GND (power), E6 GND (power), E7 GND (power), E8 GND (power), E9 GND (power), E10 GND (power), E11 GND (power), E12 A17 (hiz), E13 A16 (hiz), E14 D0 (io), F1 RXD or PE0 (io), F2 SC10 or PD0 (io), F3 SC00 or PC0 (io), F4 GND (power), F5 GND (power), F6 GND (power), F7 GND (power), F8 GND (power), F9 GND (power), F10 GND (power), F11 GND (power), F12 VCCQH (power), F13 A14 (hiz), F14 A15 (hiz), G1 SCK1 or PD3 (io), G2 SCLK or PE2 (io), G3 TXD or PE1 (io), G4 GND (power), G5 GND (power), G6 GND (power), G7 GND (power), G8 GND (power), G9 GND (power), G10 GND (power), G11 GND (power), G12 A13 (hiz), G13 VCCQL (power), G14 A12 (hiz), H1 VCCQH (power), H2 VCCQL (power), H3 SCK0 or PC3 (io), H4 GND (power), H5 GND (power), H6 GND (power), H7 GND (power), H8 GND (power), H9 GND (power), H10 GND (power), H11 GND (power), H12 VCCA (power), H13 A10 (hiz), H14 A11 (hiz), J1 ~{HACK}/HACK, ~{HRRQ}/HRRQ, or PB15 (io), J2 HRW, ~{HRD}/HRD, or PB11 (io), J3 ~{HDS}/HDS, ~{HWR}/HWR, or PB12 (io), J4 GND (power), J5 GND (power), J6 GND (power), J7 GND (power), J8 GND (power), J9 GND (power), J10 GND (power), J11 GND (power), J12 A8 (hiz), J13 A7 (hiz), J14 A9 (hiz), K1 VCCS (power), K2 ~{HREQ}/HREQ, ~{HTRQ}/HTRQ, or PB14 (io), K3 TIO2 (io), K4 GND (power), K5 GND (power), K6 GND (power), K7 GND (power), K8 GND (power), K9 GND (power), K10 GND (power), K11 GND (power), K12 VCCA (power), K13 A5 (hiz), K14 A6 (hiz), L1 ~{HCS}/HCS, HA10, or PB13 (io), L2 TIO1 (io), L3 TIO0 (io), L4 GND (power), L5 GND (power), L6 GND (power), L7 GND (power), L8 GND (power), L9 GND (power), L10 GND (power), L11 GND (power), L12 VCCA (power), L13 A3 (hiz), L14 A4 (hiz), M1 HA1, HA8, or PB9 (io), M2 HA2, HA9, or PB10 (io), M3 HA0, ~{HAS}/HAS, or PB8 (io), M4 VCCH (power), M5 H0, HAD0, or PB0 (io), M6 VCCP (power), M7 VCCQH (power), M8 EXTAL (in), M9 CLKOUT (out), M10 ~{BCLK} (hiz), M11 ~{WR} (hiz), M12 ~{RD} (hiz), M13 A1 (hiz), M14 A2 (hiz), N1 H6, HAD6, or PB6 (io), N2 H7, HAD7, or PB7 (io), N3 H4, HAD4, or PB4 (io), N4 H2, HAD2, or PB2 (io), N5 ~{RESET} (in), N6 GNDP (power), N7 AA3/~{RAS3} (hiz), N8 ~{CAS} (hiz), N9 VCCQL (power), N10 BCLK (hiz), N11 ~{BR} (out), N12 VCCC (power), N13 AA0/~{RAS0} (hiz), N14 A0 (hiz), P1 NC, P2 H5, HAD5, or PB5 (io), P3 H3, HAD3, or PB3 (io), P4 H1, HAD1, or PB1 (io), P5 PCAP, P6 GNDP1 (power), P7 AA2/~{RAS2} (hiz), P8 XTAL, P9 VCCC (power), P10 ~{TA} (in), P11 ~{BB} (io), P12 AA1/~{RAS1} (hiz), P13 ~{BG} (in), P14 NC

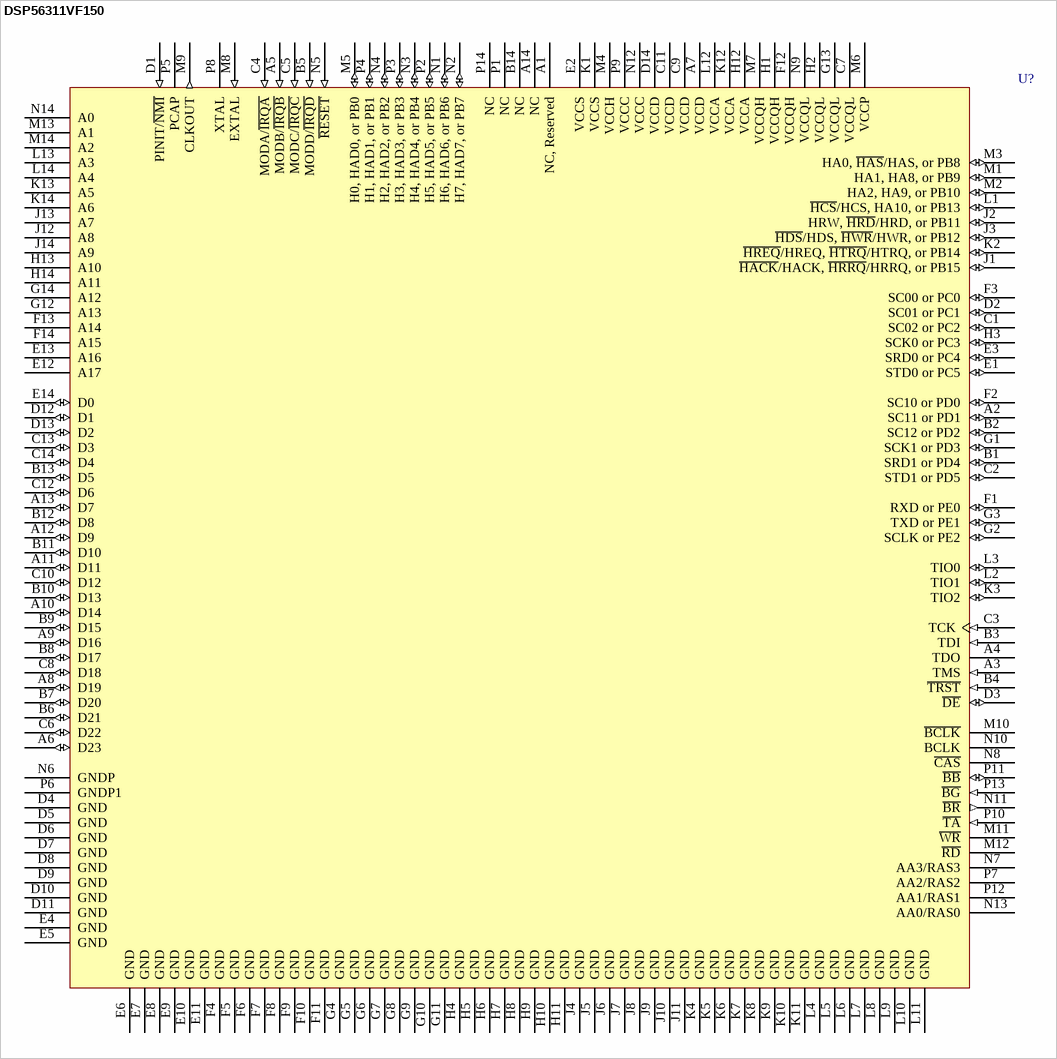
[diagram p15: symbol DSP56311VF150]

## DSP56311VF150
designator U?
DSP56300 Family High Performance 24-Bit Fixed Point DSP; Published: 21-Mar-2003; LatestRevisionDate: 13-Apr-2006; LatestRevisionNote: IPC-7351 Footprint Added.; DatasheetVersion: Rev. 3.0, Jul-2002; PackageVersion: rev7, Jan-2002; PackageReference: 1128C-01; Publisher: Altium Limited; PackageDescription: 196-Ball MAP-Ball Grid Array 1 mm Pitch; ComponentLink1Description: Manufacturer Link; ComponentLink1URL: http://www.freescale.com/; ComponentLink2Description: Datasheet; ComponentLink2URL: http://www.freescale.com/files/dsp/doc/data_sheet/DSP56311.pdf
footprint 1128C-01 (BGA, 196-Leads, Body 15x15mm, Pitch 1mm)
3D model DSP56311-1128C-01 (196-Ball MAP-Ball Grid Array 1 mm Pitch)
pins: A1 NC, Reserved, A2 SC11 or PD1 (io), A3 TMS (in), A4 TDO (hiz), A5 MODB/~{IRQB} (in), A6 D23 (io), A7 VCCD (power), A8 D19 (io), A9 D16 (io), A10 D14 (io), A11 D11 (io), A12 D9 (io), A13 D7 (io), A14 NC, B1 SRD1 or PD4 (io), B2 SC12 or PD2 (io), B3 TDI (in), B4 ~{TRST} (in), B5 MODD/~{IRQD} (in), B6 D21 (io), B7 D20 (io), B8 D17 (io), B9 D15 (io), B10 D13 (io), B11 D10 (io), B12 D8 (io), B13 D5 (io), B14 NC, C1 SC02 or PC2 (io), C2 STD1 or PD5 (io), C3 TCK (in), C4 MODA/~{IRQA} (in), C5 MODC/~{IRQC} (in), C6 D22 (io), C7 VCCQL (power), C8 D18 (io), C9 VCCD (power), C10 D12 (io), C11 VCCD (power), C12 D6 (io), C13 D3 (io), C14 D4 (io), D1 PINIT/~{NMI} (in), D2 SC01 or PC1 (io), D3 ~{DE} (io), D4 GND (power), D5 GND (power), D6 GND (power), D7 GND (power), D8 GND (power), D9 GND (power), D10 GND (power), D11 GND (power), D12 D1 (io), D13 D2 (io), D14 VCCD (power), E1 STD0 or PC5 (io), E2 VCCS (power), E3 SRD0 or PC4 (io), E4 GND (power), E5 GND (power), E6 GND (power), E7 GND (power), E8 GND (power), E9 GND (power), E10 GND (power), E11 GND (power), E12 A17 (hiz), E13 A16 (hiz), E14 D0 (io), F1 RXD or PE0 (io), F2 SC10 or PD0 (io), F3 SC00 or PC0 (io), F4 GND (power), F5 GND (power), F6 GND (power), F7 GND (power), F8 GND (power), F9 GND (power), F10 GND (power), F11 GND (power), F12 VCCQH (power), F13 A14 (hiz), F14 A15 (hiz), G1 SCK1 or PD3 (io), G2 SCLK or PE2 (io), G3 TXD or PE1 (io), G4 GND (power), G5 GND (power), G6 GND (power), G7 GND (power), G8 GND (power), G9 GND (power), G10 GND (power), G11 GND (power), G12 A13 (hiz), G13 VCCQL (power), G14 A12 (hiz), H1 VCCQH (power), H2 VCCQL (power), H3 SCK0 or PC3 (io), H4 GND (power), H5 GND (power), H6 GND (power), H7 GND (power), H8 GND (power), H9 GND (power), H10 GND (power), H11 GND (power), H12 VCCA (power), H13 A10 (hiz), H14 A11 (hiz), J1 ~{HACK}/HACK, ~{HRRQ}/HRRQ, or PB15 (io), J2 HRW, ~{HRD}/HRD, or PB11 (io), J3 ~{HDS}/HDS, ~{HWR}/HWR, or PB12 (io), J4 GND (power), J5 GND (power), J6 GND (power), J7 GND (power), J8 GND (power), J9 GND (power), J10 GND (power), J11 GND (power), J12 A8 (hiz), J13 A7 (hiz), J14 A9 (hiz), K1 VCCS (power), K2 ~{HREQ}/HREQ, ~{HTRQ}/HTRQ, or PB14 (io), K3 TIO2 (io), K4 GND (power), K5 GND (power), K6 GND (power), K7 GND (power), K8 GND (power), K9 GND (power), K10 GND (power), K11 GND (power), K12 VCCA (power), K13 A5 (hiz), K14 A6 (hiz), L1 ~{HCS}/HCS, HA10, or PB13 (io), L2 TIO1 (io), L3 TIO0 (io), L4 GND (power), L5 GND (power), L6 GND (power), L7 GND (power), L8 GND (power), L9 GND (power), L10 GND (power), L11 GND (power), L12 VCCA (power), L13 A3 (hiz), L14 A4 (hiz), M1 HA1, HA8, or PB9 (io), M2 HA2, HA9, or PB10 (io), M3 HA0, ~{HAS}/HAS, or PB8 (io), M4 VCCH (power), M5 H0, HAD0, or PB0 (io), M6 VCCP (power), M7 VCCQH (power), M8 EXTAL (in), M9 CLKOUT (out), M10 ~{BCLK} (hiz), M11 ~{WR} (hiz), M12 ~{RD} (hiz), M13 A1 (hiz), M14 A2 (hiz), N1 H6, HAD6, or PB6 (io), N2 H7, HAD7, or PB7 (io), N3 H4, HAD4, or PB4 (io), N4 H2, HAD2, or PB2 (io), N5 ~{RESET} (in), N6 GNDP (power), N7 AA3/RAS3 (hiz), N8 ~{CAS} (hiz), N9 VCCQL (power), N10 BCLK (hiz), N11 ~{BR} (out), N12 VCCC (power), N13 AA0/RAS0 (hiz), N14 A0 (hiz), P1 NC, P2 H5, HAD5, or PB5 (io), P3 H3, HAD3, or PB3 (io), P4 H1, HAD1, or PB1 (io), P5 PCAP, P6 GNDP1 (power), P7 AA2/RAS2 (hiz), P8 XTAL, P9 VCCC (power), P10 ~{TA} (in), P11 ~{BB} (io), P12 AA1/RAS1 (hiz), P13 ~{BG} (in), P14 NC

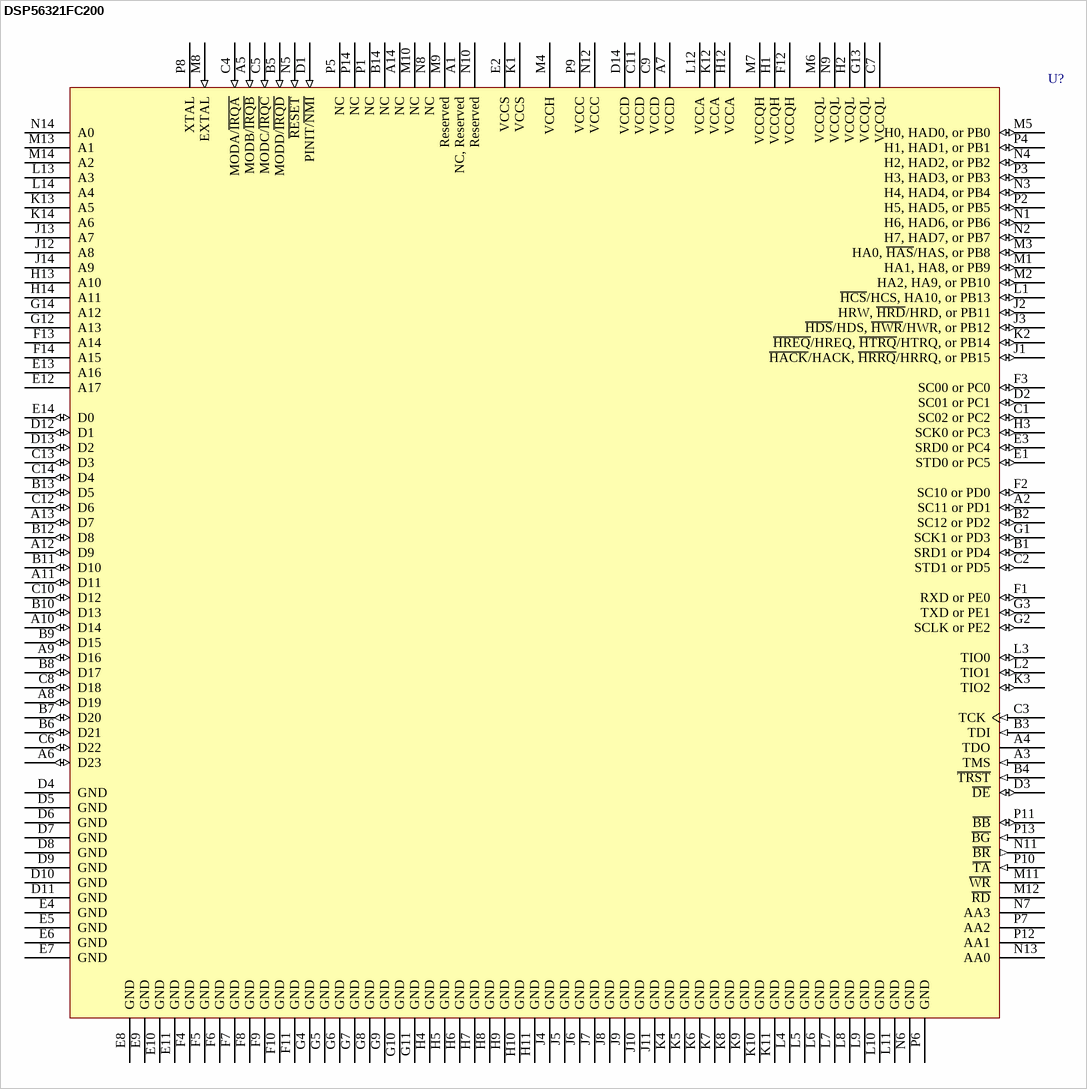
[diagram p16: symbol DSP56321FC200]

## DSP56321FC200
designator U?
DSP56300 Family High Performance 24-Bit Fixed Point DSP; Published: 21-Mar-2003; LatestRevisionDate: 13-Apr-2006; LatestRevisionNote: IPC-7351 Footprint Added.; DatasheetVersion: Rev. 4.0, Aug-2002; PackageVersion: rev1, Aug-2002; PackageReference: 1128F-01; Publisher: Altium Limited; PackageDescription: 196-Ball FC-P Ball Grid Array 1 mm Pitch; ComponentLink1Description: Manufacturer Link; ComponentLink1URL: http://www.freescale.com/
footprint 1128F-01 (BGA, 196-Leads, Body 15x15mm, Pitch 1mm)
3D model DSP56321-1128F-01 (196-Ball FC-P Ball Grid Array 1 mm Pitch)
pins: A1 NC, Reserved, A2 SC11 or PD1 (io), A3 TMS (in), A4 TDO (hiz), A5 MODB/~{IRQB} (in), A6 D23 (io), A7 VCCD (power), A8 D19 (io), A9 D16 (io), A10 D14 (io), A11 D11 (io), A12 D9 (io), A13 D7 (io), A14 NC, B1 SRD1 or PD4 (io), B2 SC12 or PD2 (io), B3 TDI (in), B4 ~{TRST} (in), B5 MODD/~{IRQD} (in), B6 D21 (io), B7 D20 (io), B8 D17 (io), B9 D15 (io), B10 D13 (io), B11 D10 (io), B12 D8 (io), B13 D5 (io), B14 NC, C1 SC02 or PC2 (io), C2 STD1 or PD5 (io), C3 TCK (in), C4 MODA/~{IRQA} (in), C5 MODC/~{IRQC} (in), C6 D22 (io), C7 VCCQL (power), C8 D18 (io), C9 VCCD (power), C10 D12 (io), C11 VCCD (power), C12 D6 (io), C13 D3 (io), C14 D4 (io), D1 PINIT/~{NMI} (in), D2 SC01 or PC1 (io), D3 ~{DE} (io), D4 GND (power), D5 GND (power), D6 GND (power), D7 GND (power), D8 GND (power), D9 GND (power), D10 GND (power), D11 GND (power), D12 D1 (io), D13 D2 (io), D14 VCCD (power), E1 STD0 or PC5 (io), E2 VCCS (power), E3 SRD0 or PC4 (io), E4 GND (power), E5 GND (power), E6 GND (power), E7 GND (power), E8 GND (power), E9 GND (power), E10 GND (power), E11 GND (power), E12 A17 (hiz), E13 A16 (hiz), E14 D0 (io), F1 RXD or PE0 (io), F2 SC10 or PD0 (io), F3 SC00 or PC0 (io), F4 GND (power), F5 GND (power), F6 GND (power), F7 GND (power), F8 GND (power), F9 GND (power), F10 GND (power), F11 GND (power), F12 VCCQH (power), F13 A14 (hiz), F14 A15 (hiz), G1 SCK1 or PD3 (io), G2 SCLK or PE2 (io), G3 TXD or PE1 (io), G4 GND (power), G5 GND (power), G6 GND (power), G7 GND (power), G8 GND (power), G9 GND (power), G10 GND (power), G11 GND (power), G12 A13 (hiz), G13 VCCQL (power), G14 A12 (hiz), H1 VCCQH (power), H2 VCCQL (power), H3 SCK0 or PC3 (io), H4 GND (power), H5 GND (power), H6 GND (power), H7 GND (power), H8 GND (power), H9 GND (power), H10 GND (power), H11 GND (power), H12 VCCA (power), H13 A10 (hiz), H14 A11 (hiz), J1 ~{HACK}/HACK, ~{HRRQ}/HRRQ, or PB15 (io), J2 HRW, ~{HRD}/HRD, or PB11 (io), J3 ~{HDS}/HDS, ~{HWR}/HWR, or PB12 (io), J4 GND (power), J5 GND (power), J6 GND (power), J7 GND (power), J8 GND (power), J9 GND (power), J10 GND (power), J11 GND (power), J12 A8 (hiz), J13 A7 (hiz), J14 A9 (hiz), K1 VCCS (power), K2 ~{HREQ}/HREQ, ~{HTRQ}/HTRQ, or PB14 (io), K3 TIO2 (io), K4 GND (power), K5 GND (power), K6 GND (power), K7 GND (power), K8 GND (power), K9 GND (power), K10 GND (power), K11 GND (power), K12 VCCA (power), K13 A5 (hiz), K14 A6 (hiz), L1 ~{HCS}/HCS, HA10, or PB13 (io), L2 TIO1 (io), L3 TIO0 (io), L4 GND (power), L5 GND (power), L6 GND (power), L7 GND (power), L8 GND (power), L9 GND (power), L10 GND (power), L11 GND (power), L12 VCCA (power), L13 A3 (hiz), L14 A4 (hiz), M1 HA1, HA8, or PB9 (io), M2 HA2, HA9, or PB10 (io), M3 HA0, ~{HAS}/HAS, or PB8 (io), M4 VCCH (power), M5 H0, HAD0, or PB0 (io), M6 VCCQL (power), M7 VCCQH (power), M8 EXTAL (in), M9 Reserved, M10 NC, M11 ~{WR} (hiz), M12 ~{RD} (hiz), M13 A1 (hiz), M14 A2 (hiz), N1 H6, HAD6, or PB6 (io), N2 H7, HAD7, or PB7 (io), N3 H4, HAD4, or PB4 (io), N4 H2, HAD2, or PB2 (io), N5 ~{RESET} (in), N6 GND (power), N7 AA3 (hiz), N8 NC, N9 VCCQL (power), N10 Reserved, N11 ~{BR} (out), N12 VCCC (power), N13 AA0 (hiz), N14 A0 (hiz), P1 NC, P2 H5, HAD5, or PB5 (io), P3 H3, HAD3, or PB3 (io), P4 H1, HAD1, or PB1 (io), P5 NC, P6 GND (power), P7 AA2 (hiz), P8 XTAL, P9 VCCC (power), P10 ~{TA} (in), P11 ~{BB} (io), P12 AA1 (hiz), P13 ~{BG} (in), P14 NC

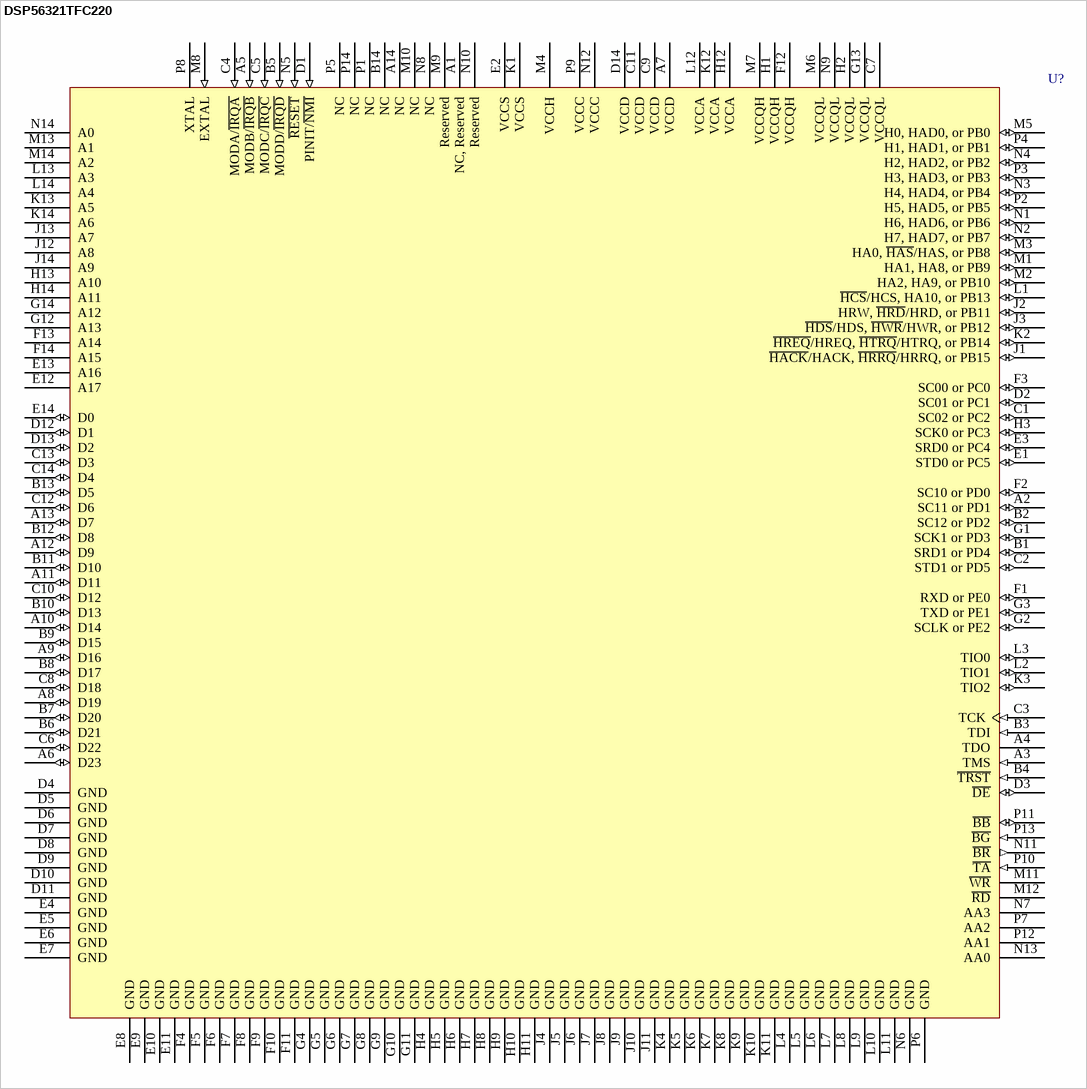
[diagram p17: symbol DSP56321TFC220]

## DSP56321TFC220
designator U?
DSP56300 Family High Performance 24-Bit Fixed Point DSP; ComponentAvailability: Not Available; Published: 21-Mar-2003; LatestRevisionDate: 13-Apr-2006; LatestRevisionNote: IPC-7351 Footprint Added.; DatasheetVersion: Rev. 1.0, Aug-2002; PackageVersion: rev1, Aug-2002; PackageReference: 1128F-01; Publisher: Altium Limited; PackageDescription: 196-Ball FC-P Ball Grid Array 1 mm Pitch; ComponentLink1Description: Manufacturer Link; ComponentLink1URL: http://www.freescale.com/; ComponentLink2Description: Datasheet; ComponentLink2URL: http://www.freescale.com/files/dsp/doc/inactive/DSP56321TDS.pdf
footprint 1128F-01 (BGA, 196-Leads, Body 15x15mm, Pitch 1mm)
3D model DSP56321T-1128F-01 (196-Ball FC-P Ball Grid Array 1 mm Pitch)
pins: A1 NC, Reserved, A2 SC11 or PD1 (io), A3 TMS (in), A4 TDO (hiz), A5 MODB/~{IRQB} (in), A6 D23 (io), A7 VCCD (power), A8 D19 (io), A9 D16 (io), A10 D14 (io), A11 D11 (io), A12 D9 (io), A13 D7 (io), A14 NC, B1 SRD1 or PD4 (io), B2 SC12 or PD2 (io), B3 TDI (in), B4 ~{TRST} (in), B5 MODD/~{IRQD} (in), B6 D21 (io), B7 D20 (io), B8 D17 (io), B9 D15 (io), B10 D13 (io), B11 D10 (io), B12 D8 (io), B13 D5 (io), B14 NC, C1 SC02 or PC2 (io), C2 STD1 or PD5 (io), C3 TCK (in), C4 MODA/~{IRQA} (in), C5 MODC/~{IRQC} (in), C6 D22 (io), C7 VCCQL (power), C8 D18 (io), C9 VCCD (power), C10 D12 (io), C11 VCCD (power), C12 D6 (io), C13 D3 (io), C14 D4 (io), D1 PINIT/~{NMI} (in), D2 SC01 or PC1 (io), D3 ~{DE} (io), D4 GND (power), D5 GND (power), D6 GND (power), D7 GND (power), D8 GND (power), D9 GND (power), D10 GND (power), D11 GND (power), D12 D1 (io), D13 D2 (io), D14 VCCD (power), E1 STD0 or PC5 (io), E2 VCCS (power), E3 SRD0 or PC4 (io), E4 GND (power), E5 GND (power), E6 GND (power), E7 GND (power), E8 GND (power), E9 GND (power), E10 GND (power), E11 GND (power), E12 A17 (hiz), E13 A16 (hiz), E14 D0 (io), F1 RXD or PE0 (io), F2 SC10 or PD0 (io), F3 SC00 or PC0 (io), F4 GND (power), F5 GND (power), F6 GND (power), F7 GND (power), F8 GND (power), F9 GND (power), F10 GND (power), F11 GND (power), F12 VCCQH (power), F13 A14 (hiz), F14 A15 (hiz), G1 SCK1 or PD3 (io), G2 SCLK or PE2 (io), G3 TXD or PE1 (io), G4 GND (power), G5 GND (power), G6 GND (power), G7 GND (power), G8 GND (power), G9 GND (power), G10 GND (power), G11 GND (power), G12 A13 (hiz), G13 VCCQL (power), G14 A12 (hiz), H1 VCCQH (power), H2 VCCQL (power), H3 SCK0 or PC3 (io), H4 GND (power), H5 GND (power), H6 GND (power), H7 GND (power), H8 GND (power), H9 GND (power), H10 GND (power), H11 GND (power), H12 VCCA (power), H13 A10 (hiz), H14 A11 (hiz), J1 ~{HACK}/HACK, ~{HRRQ}/HRRQ, or PB15 (io), J2 HRW, ~{HRD}/HRD, or PB11 (io), J3 ~{HDS}/HDS, ~{HWR}/HWR, or PB12 (io), J4 GND (power), J5 GND (power), J6 GND (power), J7 GND (power), J8 GND (power), J9 GND (power), J10 GND (power), J11 GND (power), J12 A8 (hiz), J13 A7 (hiz), J14 A9 (hiz), K1 VCCS (power), K2 ~{HREQ}/HREQ, ~{HTRQ}/HTRQ, or PB14 (io), K3 TIO2 (io), K4 GND (power), K5 GND (power), K6 GND (power), K7 GND (power), K8 GND (power), K9 GND (power), K10 GND (power), K11 GND (power), K12 VCCA (power), K13 A5 (hiz), K14 A6 (hiz), L1 ~{HCS}/HCS, HA10, or PB13 (io), L2 TIO1 (io), L3 TIO0 (io), L4 GND (power), L5 GND (power), L6 GND (power), L7 GND (power), L8 GND (power), L9 GND (power), L10 GND (power), L11 GND (power), L12 VCCA (power), L13 A3 (hiz), L14 A4 (hiz), M1 HA1, HA8, or PB9 (io), M2 HA2, HA9, or PB10 (io), M3 HA0, ~{HAS}/HAS, or PB8 (io), M4 VCCH (power), M5 H0, HAD0, or PB0 (io), M6 VCCQL (power), M7 VCCQH (power), M8 EXTAL (in), M9 Reserved, M10 NC, M11 ~{WR} (hiz), M12 ~{RD} (hiz), M13 A1 (hiz), M14 A2 (hiz), N1 H6, HAD6, or PB6 (io), N2 H7, HAD7, or PB7 (io), N3 H4, HAD4, or PB4 (io), N4 H2, HAD2, or PB2 (io), N5 ~{RESET} (in), N6 GND (power), N7 AA3 (hiz), N8 NC, N9 VCCQL (power), N10 Reserved, N11 ~{BR} (out), N12 VCCC (power), N13 AA0 (hiz), N14 A0 (hiz), P1 NC, P2 H5, HAD5, or PB5 (io), P3 H3, HAD3, or PB3 (io), P4 H1, HAD1, or PB1 (io), P5 NC, P6 GND (power), P7 AA2 (hiz), P8 XTAL, P9 VCCC (power), P10 ~{TA} (in), P11 ~{BB} (io), P12 AA1 (hiz), P13 ~{BG} (in), P14 NC

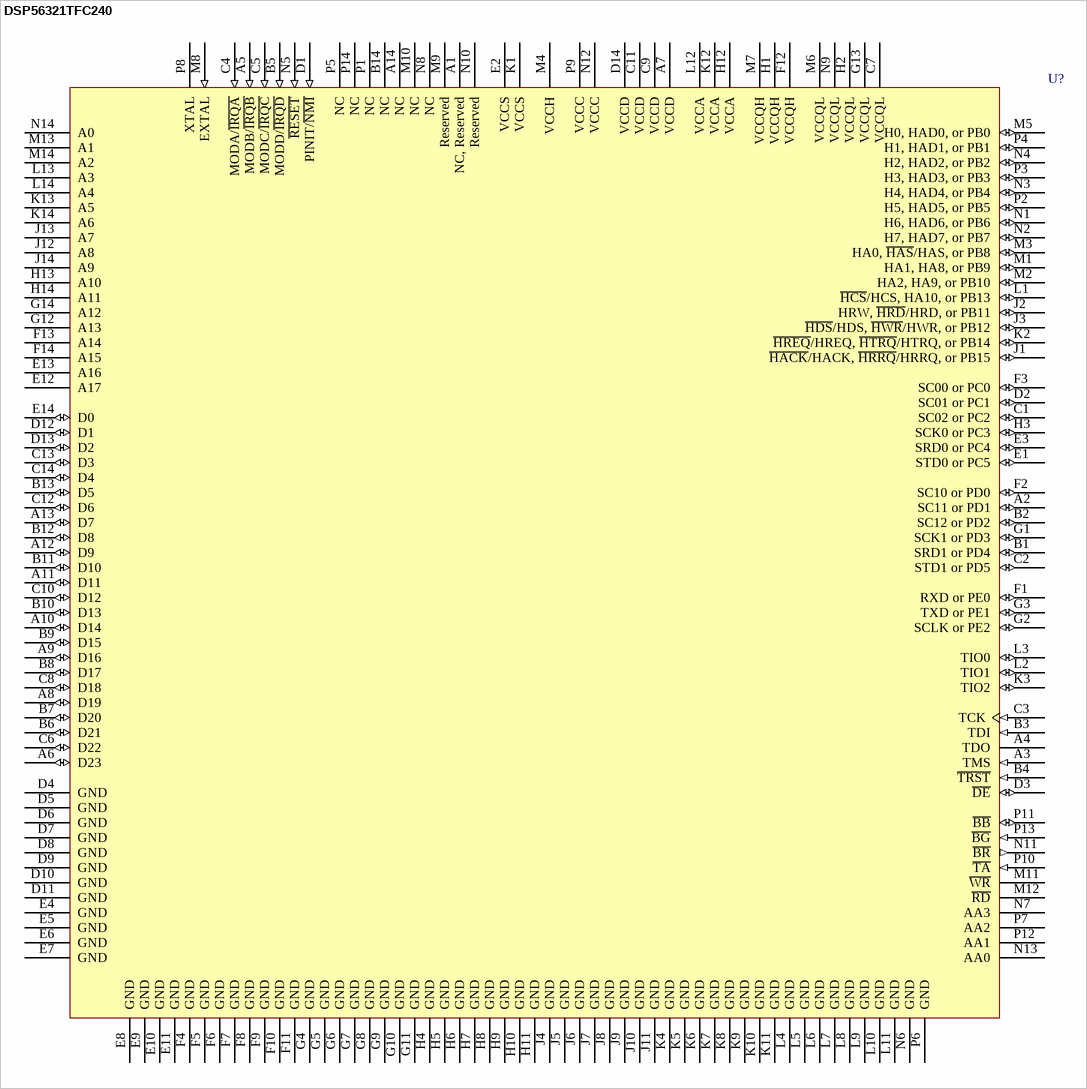
[diagram p18: symbol DSP56321TFC240]

## DSP56321TFC240
designator U?
DSP56300 Family High Performance 24-Bit Fixed Point DSP; ComponentAvailability: Not Available; Published: 21-Mar-2003; LatestRevisionDate: 13-Apr-2006; LatestRevisionNote: IPC-7351 Footprint Added.; DatasheetVersion: Rev. 1.0, Aug-2002; PackageVersion: rev1, Aug-2002; PackageReference: 1128F-01; Publisher: Altium Limited; PackageDescription: 196-Ball FC-P Ball Grid Array 1 mm Pitch; ComponentLink1Description: Manufacturer Link; ComponentLink1URL: http://www.freescale.com/; ComponentLink2Description: Datasheet; ComponentLink2URL: http://www.freescale.com/files/dsp/doc/inactive/DSP56321TDS.pdf
footprint 1128F-01 (BGA, 196-Leads, Body 15x15mm, Pitch 1mm)
3D model DSP56321T-1128F-01 (196-Ball FC-P Ball Grid Array 1 mm Pitch)
pins: A1 NC, Reserved, A2 SC11 or PD1 (io), A3 TMS (in), A4 TDO (hiz), A5 MODB/~{IRQB} (in), A6 D23 (io), A7 VCCD (power), A8 D19 (io), A9 D16 (io), A10 D14 (io), A11 D11 (io), A12 D9 (io), A13 D7 (io), A14 NC, B1 SRD1 or PD4 (io), B2 SC12 or PD2 (io), B3 TDI (in), B4 ~{TRST} (in), B5 MODD/~{IRQD} (in), B6 D21 (io), B7 D20 (io), B8 D17 (io), B9 D15 (io), B10 D13 (io), B11 D10 (io), B12 D8 (io), B13 D5 (io), B14 NC, C1 SC02 or PC2 (io), C2 STD1 or PD5 (io), C3 TCK (in), C4 MODA/~{IRQA} (in), C5 MODC/~{IRQC} (in), C6 D22 (io), C7 VCCQL (power), C8 D18 (io), C9 VCCD (power), C10 D12 (io), C11 VCCD (power), C12 D6 (io), C13 D3 (io), C14 D4 (io), D1 PINIT/~{NMI} (in), D2 SC01 or PC1 (io), D3 ~{DE} (io), D4 GND (power), D5 GND (power), D6 GND (power), D7 GND (power), D8 GND (power), D9 GND (power), D10 GND (power), D11 GND (power), D12 D1 (io), D13 D2 (io), D14 VCCD (power), E1 STD0 or PC5 (io), E2 VCCS (power), E3 SRD0 or PC4 (io), E4 GND (power), E5 GND (power), E6 GND (power), E7 GND (power), E8 GND (power), E9 GND (power), E10 GND (power), E11 GND (power), E12 A17 (hiz), E13 A16 (hiz), E14 D0 (io), F1 RXD or PE0 (io), F2 SC10 or PD0 (io), F3 SC00 or PC0 (io), F4 GND (power), F5 GND (power), F6 GND (power), F7 GND (power), F8 GND (power), F9 GND (power), F10 GND (power), F11 GND (power), F12 VCCQH (power), F13 A14 (hiz), F14 A15 (hiz), G1 SCK1 or PD3 (io), G2 SCLK or PE2 (io), G3 TXD or PE1 (io), G4 GND (power), G5 GND (power), G6 GND (power), G7 GND (power), G8 GND (power), G9 GND (power), G10 GND (power), G11 GND (power), G12 A13 (hiz), G13 VCCQL (power), G14 A12 (hiz), H1 VCCQH (power), H2 VCCQL (power), H3 SCK0 or PC3 (io), H4 GND (power), H5 GND (power), H6 GND (power), H7 GND (power), H8 GND (power), H9 GND (power), H10 GND (power), H11 GND (power), H12 VCCA (power), H13 A10 (hiz), H14 A11 (hiz), J1 ~{HACK}/HACK, ~{HRRQ}/HRRQ, or PB15 (io), J2 HRW, ~{HRD}/HRD, or PB11 (io), J3 ~{HDS}/HDS, ~{HWR}/HWR, or PB12 (io), J4 GND (power), J5 GND (power), J6 GND (power), J7 GND (power), J8 GND (power), J9 GND (power), J10 GND (power), J11 GND (power), J12 A8 (hiz), J13 A7 (hiz), J14 A9 (hiz), K1 VCCS (power), K2 ~{HREQ}/HREQ, ~{HTRQ}/HTRQ, or PB14 (io), K3 TIO2 (io), K4 GND (power), K5 GND (power), K6 GND (power), K7 GND (power), K8 GND (power), K9 GND (power), K10 GND (power), K11 GND (power), K12 VCCA (power), K13 A5 (hiz), K14 A6 (hiz), L1 ~{HCS}/HCS, HA10, or PB13 (io), L2 TIO1 (io), L3 TIO0 (io), L4 GND (power), L5 GND (power), L6 GND (power), L7 GND (power), L8 GND (power), L9 GND (power), L10 GND (power), L11 GND (power), L12 VCCA (power), L13 A3 (hiz), L14 A4 (hiz), M1 HA1, HA8, or PB9 (io), M2 HA2, HA9, or PB10 (io), M3 HA0, ~{HAS}/HAS, or PB8 (io), M4 VCCH (power), M5 H0, HAD0, or PB0 (io), M6 VCCQL (power), M7 VCCQH (power), M8 EXTAL (in), M9 Reserved, M10 NC, M11 ~{WR} (hiz), M12 ~{RD} (hiz), M13 A1 (hiz), M14 A2 (hiz), N1 H6, HAD6, or PB6 (io), N2 H7, HAD7, or PB7 (io), N3 H4, HAD4, or PB4 (io), N4 H2, HAD2, or PB2 (io), N5 ~{RESET} (in), N6 GND (power), N7 AA3 (hiz), N8 NC, N9 VCCQL (power), N10 Reserved, N11 ~{BR} (out), N12 VCCC (power), N13 AA0 (hiz), N14 A0 (hiz), P1 NC, P2 H5, HAD5, or PB5 (io), P3 H3, HAD3, or PB3 (io), P4 H1, HAD1, or PB1 (io), P5 NC, P6 GND (power), P7 AA2 (hiz), P8 XTAL, P9 VCCC (power), P10 ~{TA} (in), P11 ~{BB} (io), P12 AA1 (hiz), P13 ~{BG} (in), P14 NC

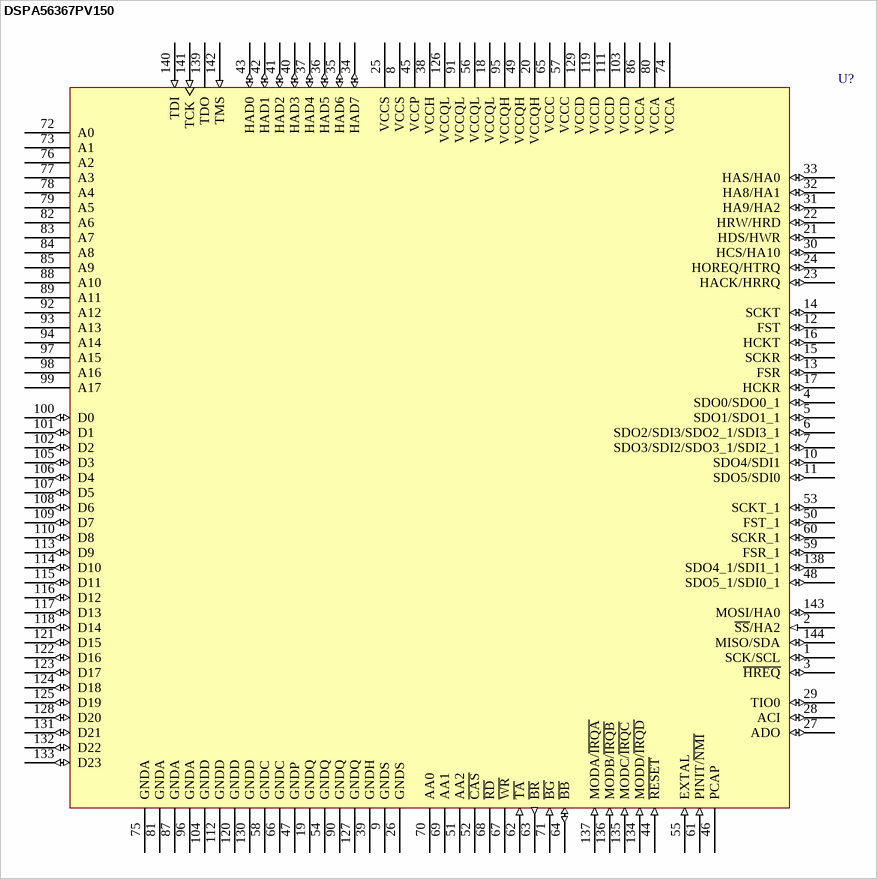
[diagram p19: symbol DSPA56367PV150]

## DSPA56367PV150
designator U?
DSP5636x Family Audio DSP; Published: 21-Mar-2003; LatestRevisionDate: 13-Apr-2006; LatestRevisionNote: IPC-7351 Footprint Added.; DatasheetVersion: Rev. 1.4, Jan-2002; PackageVersion: revF, May-2005; PackageReference: 918-03; Publisher: Altium Limited; PackageDescription: 144-Pin Low Profile Quad Flat Pack 0.5 mm Pitch (918-03); ComponentLink1Description: Manufacturer Link; ComponentLink1URL: http://www.freescale.com/; ComponentLink2Description: User Guide; ComponentLink2URL: http://www.freescale.com/files/dsp/doc/user_guide/DSP56367UM.pdf
footprint 918-03_N (Thin QFP, 144-Leads, Body 20x20mm, Pitch 0.5mm, IPC Medium Density)
footprint 918-03_L (Thin QFP, 144-Leads, Body 20x20mm, Pitch 0.5mm, IPC High Density)
footprint 918-03_M (Thin QFP, 144-Leads, Body 20x20mm, Pitch 0.5mm, IPC Low Density)
3D model DSPA56367-918-03 (144-Pin Low Profile Quad Flat Pack 0.5 mm Pitch (918-03))
pins: 1 SCK/SCL (io), 2 ~{SS}/HA2 (in), 3 ~{HREQ} (io), 4 SDO0/SDO0_1 (io), 5 SDO1/SDO1_1 (io), 6 SDO2/SDI3/SDO2_1/SDI3_1 (io), 7 SDO3/SDI2/SDO3_1/SDI2_1 (io), 8 VCCS (power), 9 GNDS (power), 10 SDO4/SDI1 (io), 11 SDO5/SDI0 (io), 12 FST (io), 13 FSR (io), 14 SCKT (io), 15 SCKR (io), 16 HCKT (io), 17 HCKR (io), 18 VCCQL (power), 19 GNDQ (power), 20 VCCQH (power), 21 HDS/HWR (io), 22 HRW/HRD (io), 23 HACK/HRRQ (io), 24 HOREQ/HTRQ (io), 25 VCCS (power), 26 GNDS (power), 27 ADO (io), 28 ACI (io), 29 TIO0 (io), 30 HCS/HA10 (io), 31 HA9/HA2 (io), 32 HA8/HA1 (io), 33 HAS/HA0 (io), 34 HAD7 (io), 35 HAD6 (io), 36 HAD5 (io), 37 HAD4 (io), 38 VCCH (power), 39 GNDH (power), 40 HAD3 (io), 41 HAD2 (io), 42 HAD1 (io), 43 HAD0 (io), 44 ~{RESET} (in), 45 VCCP (power), 46 PCAP, 47 GNDP (power), 48 SDO5_1/SDI0_1 (io), 49 VCCQH (power), 50 FST_1 (io), 51 AA2 (hiz), 52 ~{CAS} (hiz), 53 SCKT_1 (io), 54 GNDQ (power), 55 EXTAL (in), 56 VCCQL (power), 57 VCCC (power), 58 GNDC (power), 59 FSR_1 (io), 60 SCKR_1 (io), 61 PINIT/~{NMI} (in), 62 ~{TA} (in), 63 ~{BR} (out), 64 ~{BB} (io), 65 VCCC (power), 66 GNDC (power), 67 ~{WR} (hiz), 68 ~{RD} (hiz), 69 AA1 (hiz), 70 AA0 (hiz), 71 ~{BG} (in), 72 A0 (hiz), 73 A1 (hiz), 74 VCCA (power), 75 GNDA (power), 76 A2 (hiz), 77 A3 (hiz), 78 A4 (hiz), 79 A5 (hiz), 80 VCCA (power), 81 GNDA (power), 82 A6 (hiz), 83 A7 (hiz), 84 A8 (hiz), 85 A9 (hiz), 86 VCCA (power), 87 GNDA (power), 88 A10 (hiz), 89 A11 (hiz), 90 GNDQ (power), 91 VCCQL (power), 92 A12 (hiz), 93 A13 (hiz), 94 A14 (hiz), 95 VCCQH (power), 96 GNDA (power), 97 A15 (hiz), 98 A16 (hiz), 99 A17 (hiz), 100 D0 (io), 101 D1 (io), 102 D2 (io), 103 VCCD (power), 104 GNDD (power), 105 D3 (io), 106 D4 (io), 107 D5 (io), 108 D6 (io), 109 D7 (io), 110 D8 (io), 111 VCCD (power), 112 GNDD (power), 113 D9 (io), 114 D10 (io), 115 D11 (io), 116 D12 (io), 117 D13 (io), 118 D14 (io), 119 VCCD (power), 120 GNDD (power), 121 D15 (io), 122 D16 (io), 123 D17 (io), 124 D18 (io), 125 D19 (io), 126 VCCQL (power), 127 GNDQ (power), 128 D20 (io), 129 VCCD (power), 130 GNDD (power), 131 D21 (io), 132 D22 (io), 133 D23 (io), 134 MODD/~{IRQD} (in), 135 MODC/~{IRQC} (in), 136 MODB/~{IRQB} (in), 137 MODA/~{IRQA} (in), 138 SDO4_1/SDI1_1 (io), 139 TDO (hiz), 140 TDI (in), 141 TCK (in), 142 TMS (in), 143 MOSI/HA0 (io), 144 MISO/SDA (io)

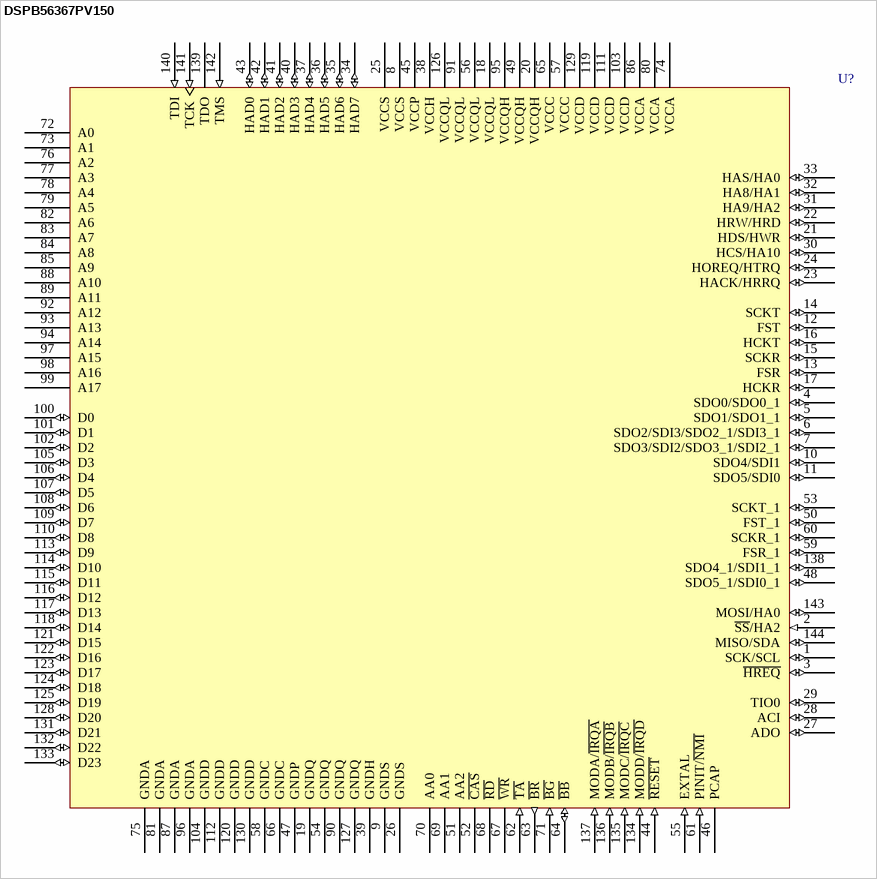
[diagram p20: symbol DSPB56367PV150]

## DSPB56367PV150
designator U?
DSP5636x Family Audio DSP; Published: 21-Mar-2003; LatestRevisionDate: 13-Apr-2006; LatestRevisionNote: IPC-7351 Footprint Added.; DatasheetVersion: Rev. 1.4, Jan-2002; PackageVersion: revF, May-2005; PackageReference: 918-03; Publisher: Altium Limited; PackageDescription: 144-Pin Low Profile Quad Flat Pack 0.5 mm Pitch (918-03); ComponentLink1Description: Manufacturer Link; ComponentLink1URL: http://www.freescale.com/; ComponentLink2Description: User Guide; ComponentLink2URL: http://www.freescale.com/files/dsp/doc/user_guide/DSP56367UM.pdf
footprint 918-03_N (Thin QFP, 144-Leads, Body 20x20mm, Pitch 0.5mm, IPC Medium Density)
footprint 918-03_L (Thin QFP, 144-Leads, Body 20x20mm, Pitch 0.5mm, IPC High Density)
footprint 918-03_M (Thin QFP, 144-Leads, Body 20x20mm, Pitch 0.5mm, IPC Low Density)
3D model DSPB56367-918-03 (144-Pin Low Profile Quad Flat Pack 0.5 mm Pitch (918-03))
pins: 1 SCK/SCL (io), 2 ~{SS}/HA2 (in), 3 ~{HREQ} (io), 4 SDO0/SDO0_1 (io), 5 SDO1/SDO1_1 (io), 6 SDO2/SDI3/SDO2_1/SDI3_1 (io), 7 SDO3/SDI2/SDO3_1/SDI2_1 (io), 8 VCCS (power), 9 GNDS (power), 10 SDO4/SDI1 (io), 11 SDO5/SDI0 (io), 12 FST (io), 13 FSR (io), 14 SCKT (io), 15 SCKR (io), 16 HCKT (io), 17 HCKR (io), 18 VCCQL (power), 19 GNDQ (power), 20 VCCQH (power), 21 HDS/HWR (io), 22 HRW/HRD (io), 23 HACK/HRRQ (io), 24 HOREQ/HTRQ (io), 25 VCCS (power), 26 GNDS (power), 27 ADO (io), 28 ACI (io), 29 TIO0 (io), 30 HCS/HA10 (io), 31 HA9/HA2 (io), 32 HA8/HA1 (io), 33 HAS/HA0 (io), 34 HAD7 (io), 35 HAD6 (io), 36 HAD5 (io), 37 HAD4 (io), 38 VCCH (power), 39 GNDH (power), 40 HAD3 (io), 41 HAD2 (io), 42 HAD1 (io), 43 HAD0 (io), 44 ~{RESET} (in), 45 VCCP (power), 46 PCAP, 47 GNDP (power), 48 SDO5_1/SDI0_1 (io), 49 VCCQH (power), 50 FST_1 (io), 51 AA2 (hiz), 52 ~{CAS} (hiz), 53 SCKT_1 (io), 54 GNDQ (power), 55 EXTAL (in), 56 VCCQL (power), 57 VCCC (power), 58 GNDC (power), 59 FSR_1 (io), 60 SCKR_1 (io), 61 PINIT/~{NMI} (in), 62 ~{TA} (in), 63 ~{BR} (out), 64 ~{BB} (io), 65 VCCC (power), 66 GNDC (power), 67 ~{WR} (hiz), 68 ~{RD} (hiz), 69 AA1 (hiz), 70 AA0 (hiz), 71 ~{BG} (in), 72 A0 (hiz), 73 A1 (hiz), 74 VCCA (power), 75 GNDA (power), 76 A2 (hiz), 77 A3 (hiz), 78 A4 (hiz), 79 A5 (hiz), 80 VCCA (power), 81 GNDA (power), 82 A6 (hiz), 83 A7 (hiz), 84 A8 (hiz), 85 A9 (hiz), 86 VCCA (power), 87 GNDA (power), 88 A10 (hiz), 89 A11 (hiz), 90 GNDQ (power), 91 VCCQL (power), 92 A12 (hiz), 93 A13 (hiz), 94 A14 (hiz), 95 VCCQH (power), 96 GNDA (power), 97 A15 (hiz), 98 A16 (hiz), 99 A17 (hiz), 100 D0 (io), 101 D1 (io), 102 D2 (io), 103 VCCD (power), 104 GNDD (power), 105 D3 (io), 106 D4 (io), 107 D5 (io), 108 D6 (io), 109 D7 (io), 110 D8 (io), 111 VCCD (power), 112 GNDD (power), 113 D9 (io), 114 D10 (io), 115 D11 (io), 116 D12 (io), 117 D13 (io), 118 D14 (io), 119 VCCD (power), 120 GNDD (power), 121 D15 (io), 122 D16 (io), 123 D17 (io), 124 D18 (io), 125 D19 (io), 126 VCCQL (power), 127 GNDQ (power), 128 D20 (io), 129 VCCD (power), 130 GNDD (power), 131 D21 (io), 132 D22 (io), 133 D23 (io), 134 MODD/~{IRQD} (in), 135 MODC/~{IRQC} (in), 136 MODB/~{IRQB} (in), 137 MODA/~{IRQA} (in), 138 SDO4_1/SDI1_1 (io), 139 TDO (hiz), 140 TDI (in), 141 TCK (in), 142 TMS (in), 143 MOSI/HA0 (io), 144 MISO/SDA (io)

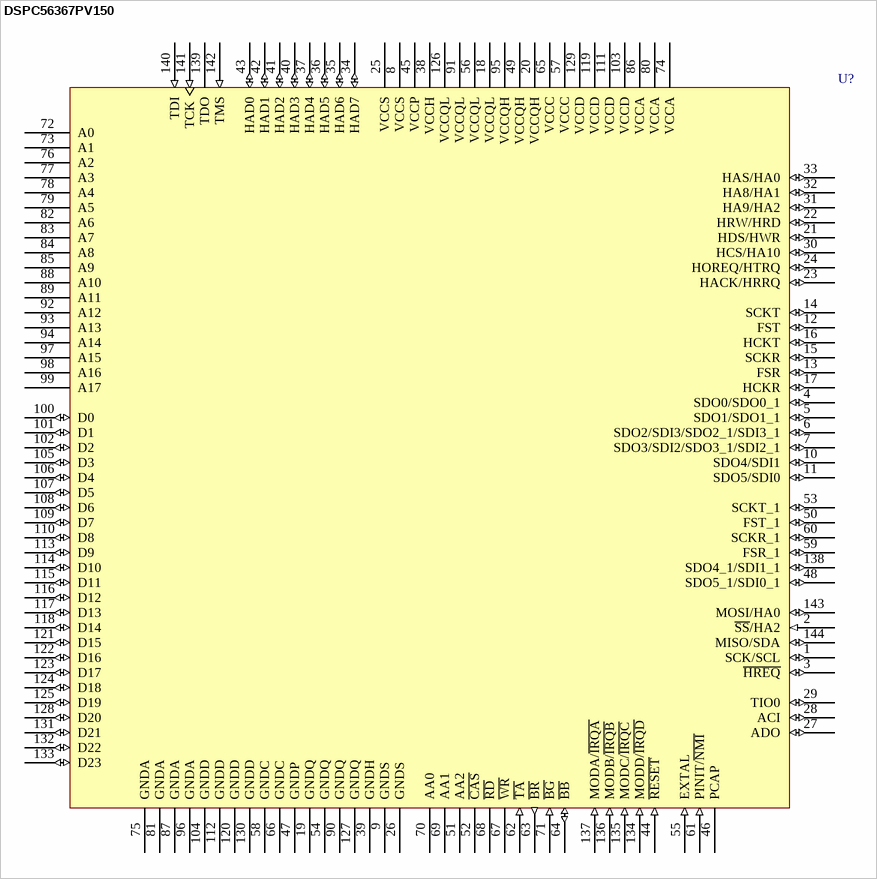
[diagram p21: symbol DSPC56367PV150]